# Altium schematic symbol library 13-Standard Logic 逻辑电路.SchLib: 227 symbols (part 1 of 2)
Pins are listed as number, name and electrical type; pins without a type are passive.

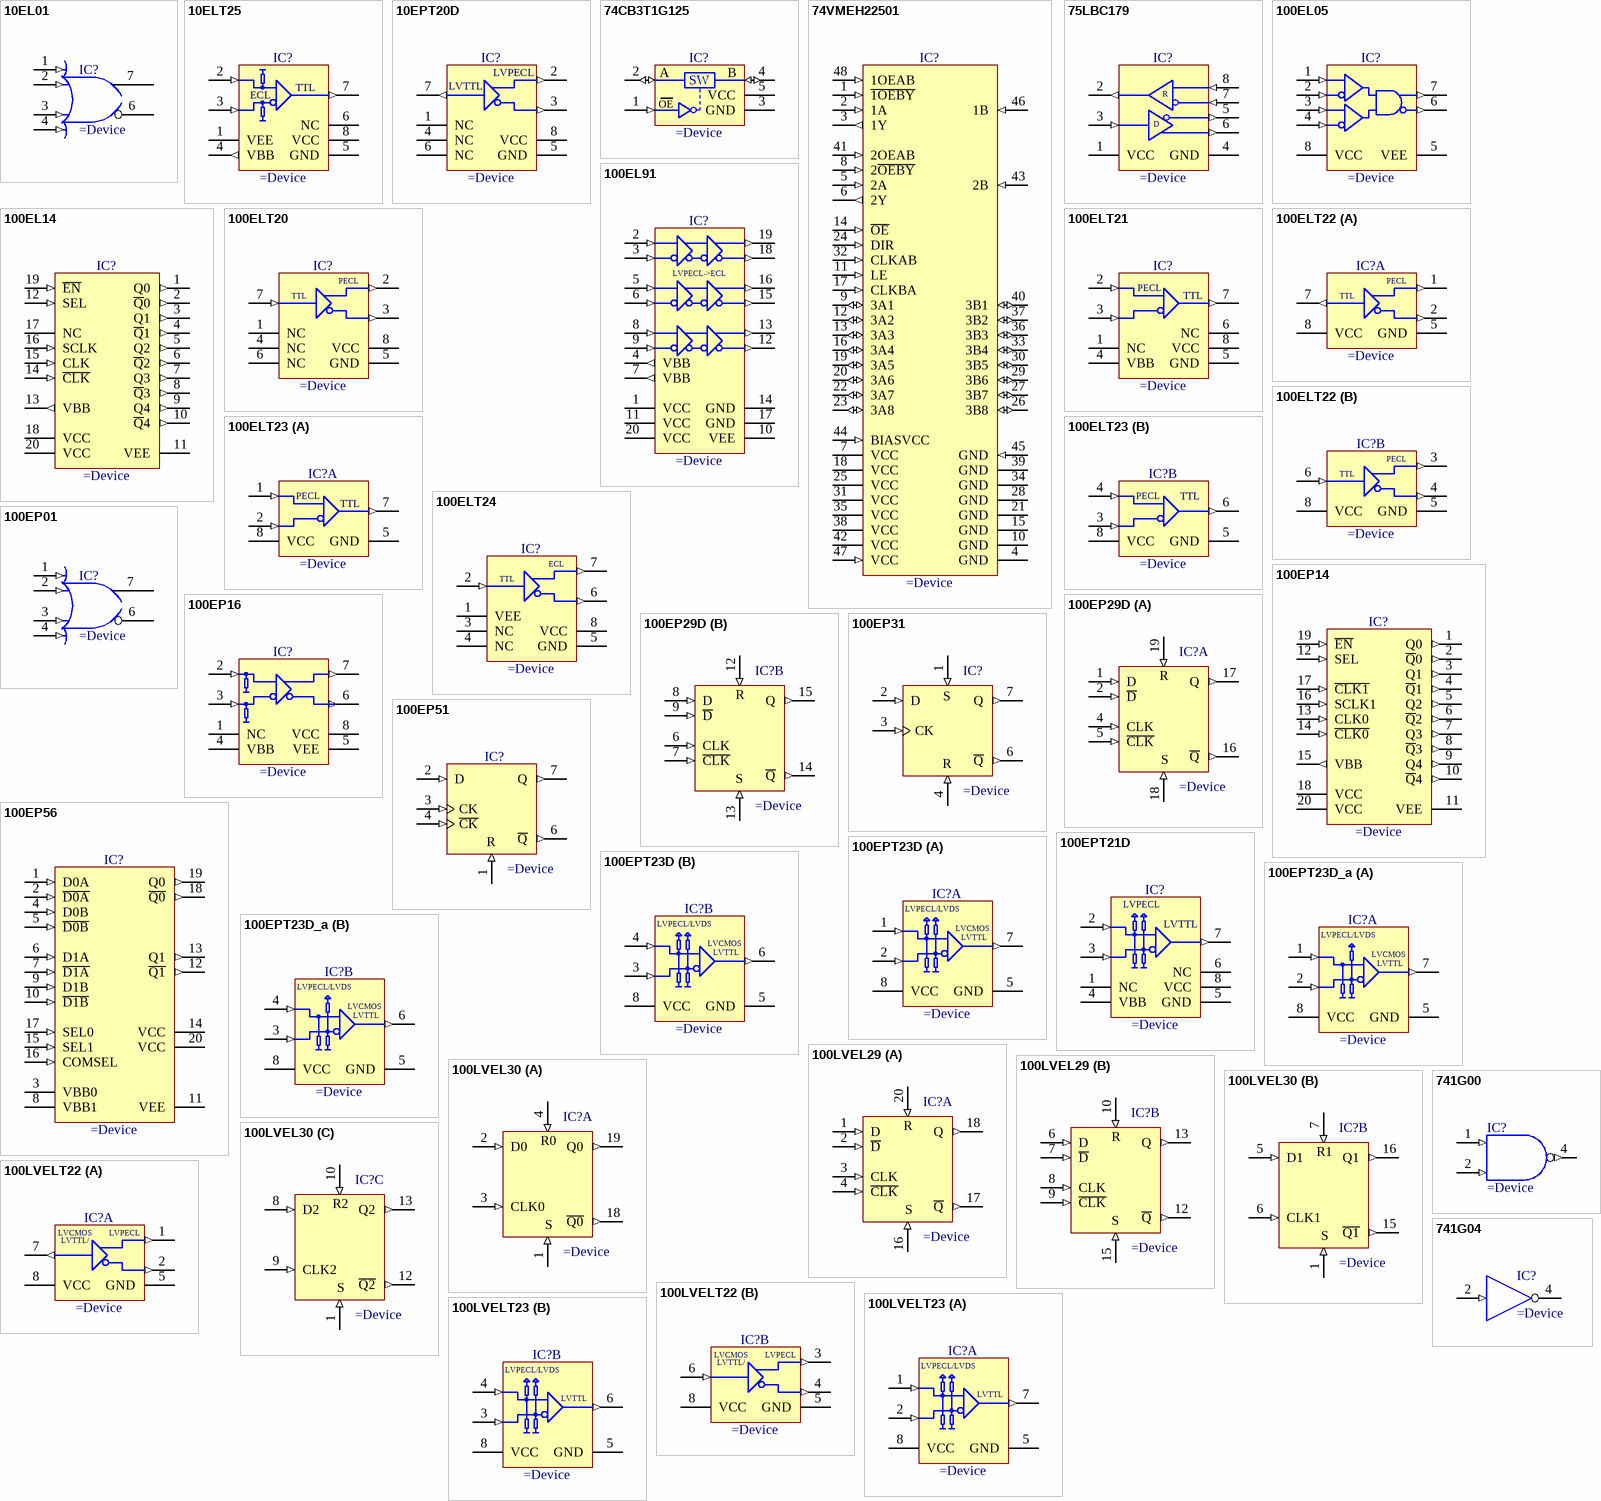
[diagram p0: symbols 10EL01 to 741G04]

## 10EL01
designator IC?
4-Input OR/NOR Gate
pins: 1 D0 (in), 2 D1 (in), 3 D2 (in), 4 D3 (in), 5 VEE (power) hidden to VEE, 6 ~{Q} (oe), 7 Q (oe), 8 VCC (power) hidden to VCC

## 10ELT25
designator IC?
Differential ECL to TTL Translator
pins: 1 VEE (power), 2 D0 (in), 3 ~{D}0 (in), 4 VBB (out), 5 GND (power), 6 NC, 7 Q0 (out), 8 VCC (power)
text: TTL; ECL

## 10EPT20D
designator IC?
3.3V LVTTL/LVCMOS to Differential LVPECL Translator
pins: 1 NC, 2 Q (out), 3 ~{Q} (out), 4 NC, 5 GND (power), 6 NC, 7 D (out), 8 VCC (power)
text: LVPECL; LVTTL

## 74CB3T1G125
designator IC?
Single FET Bus Switch With 2.5V/3.3V Low-Voltage Switch with 5V-Tolerant Level Shifter
pins: 1 ~{OE} (in), 2 A (io), 3 GND (power), 4 B (io), 5 VCC (power)
text: SW; OE

## 74VMEH22501
designator IC?
8-Bit Universal Bus Transceiver and Two 1-Bit Bus Transceivers with 3-State Outputs
pins: 1 ~{1OEBY} (in), 2 1A (in), 3 1Y (out), 4 GND (power), 5 2A (in), 6 2Y (out), 7 VCC (power), 8 2~{OEBY} (in), 9 3A1 (io), 10 GND (power), 11 LE (in), 12 3A2 (io), 13 3A3 (io), 14 ~{OE} (in), 15 GND (power), 16 3A4 (io), 17 CLKBA (in), 18 VCC (power), 19 3A5 (io), 20 3A6 (io), 21 GND (power), 22 3A7 (io), 23 3A8 (io), 24 DIR (in), 25 VCC (power), 26 3B8 (io), 27 3B7 (io), 28 GND (power), 29 3B6 (io), 30 3B5 (io), 31 VCC (power), 32 CLKAB (in), 33 3B4 (io), 34 GND (power), 35 VCC (power), 36 3B3 (io), 37 3B2 (io), 38 VCC (power), 39 GND (power), 40 3B1 (io), 41 2OEAB (in), 42 VCC (power), 43 2B (in), 44 BIASVCC (in), 45 GND (in), 46 1B (in), 47 VCC (in), 48 1OEAB (in)

## 75LBC179
designator IC?
Low-Power Differential Line Driver And Receiver Pairs
pins: 1 VCC (power), 2 R (out), 3 D (in), 4 GND (power), 5 Y (out), 6 Z (out), 7 B (in), 8 A (in)

## 100EL05
designator IC?
ECL 2-Input Differential AND/NAND
pins: 1 D0 (in), 2 ~{D0} (in), 3 D1 (in), 4 ~{D1} (in), 5 VEE (power), 6 ~{Q} (out), 7 Q (out), 8 VCC (power)

## 100EL14
designator IC?
ECL 1:5 Clock Distribution Chip
pins: 1 Q0 (out), 2 ~{Q}0 (out), 3 Q1 (out), 4 ~{Q}1 (out), 5 Q2 (out), 6 ~{Q}2 (out), 7 Q3 (out), 8 ~{Q}3 (out), 9 Q4 (out), 10 ~{Q}4 (out), 11 VEE (power), 12 SEL (in), 13 VBB (out), 14 ~{CLK} (in), 15 CLK (in), 16 SCLK (in), 17 NC, 18 VCC (power), 19 ~{EN} (in), 20 VCC (power)

## 100EL91
designator IC?
3.3V Triple LVPECL Input to -3.3V to -5.0V ECL Output Translator
pins: 1 VCC (power), 2 D0 (in), 3 ~{D0} (in), 4 VBB (out), 5 D1 (in), 6 ~{D1} (in), 7 VBB (out), 8 D2 (in), 9 ~{D2} (in), 10 VEE (power), 11 VCC (power), 12 ~{Q2} (out), 13 Q2 (out), 14 GND (power), 15 ~{Q1} (out), 16 Q1 (out), 17 GND (power), 18 ~{Q0} (out), 19 Q0 (out), 20 VCC (power)
text: LVPECL->ECL

## 100ELT20
designator IC?
TTL to Differential PECL Translator
pins: 1 NC, 2 Q (out), 3 ~{Q} (out), 4 NC, 5 GND (power), 6 NC, 7 D (in), 8 VCC (power)
text: PECL; TTL

## 100ELT21
designator IC?
Differential PECL to TTL Translator
pins: 1 NC, 2 D0 (in), 3 ~{D0} (in), 4 VBB (power), 5 GND (power), 6 NC, 7 Q0 (out), 8 VCC (power)
text: PECL; TTL

## 100ELT22
designator IC?
Dual TTL to Differential PECL Translator
pins on every part: 5 GND (power), 8 VCC (power)
part A pins: 1 Q0 (out), 2 ~{Q0} (out), 7 D0 (out)
part B pins: 3 Q1 (out), 4 ~{Q1} (out), 6 D1 (in)
part A text: PECL; TTL
part B text: PECL; TTL

## 100ELT23
designator IC?
Dual Differential PECL to TTL Translator
pins on every part: 5 GND (power), 8 VCC (power)
part A pins: 1 D0 (in), 2 ~{D0} (in), 7 Q0 (out)
part B pins: 3 ~{D0} (in), 4 D0 (in), 6 Q0 (out)
part A text: PECL; TTL
part B text: PECL; TTL

## 100ELT24
designator IC?
5V TTL to Differential ECL Translator
pins: 1 VEE (power), 2 D (in), 3 NC, 4 NC, 5 GND (power), 6 ~{Q} (out), 7 Q (out), 8 VCC (power)
text: ECL; TTL

## 100EP01
designator IC?
3.3V/5V ECL 4-Input OR/NOR
pins: 1 D0 (in), 2 D1 (in), 3 D2 (in), 4 D3 (in), 5 VEE (power) hidden to VEE, 6 ~{Q} (oe), 7 Q (oe), 8 VCC (power) hidden to VCC

## 100EP14
designator IC?
1:5 Clock Distribution Chip
pins: 1 Q0 (out), 2 ~{Q}0 (out), 3 Q1 (out), 4 ~{Q}1 (out), 5 Q2 (out), 6 ~{Q}2 (out), 7 Q3 (out), 8 ~{Q}3 (out), 9 Q4 (out), 10 ~{Q}4 (out), 11 VEE (power), 12 SEL (in), 13 CLK0 (in), 14 ~{CLK0} (in), 15 VBB (out), 16 SCLK1 (in), 17 ~{CLK1} (in), 18 VCC (power), 19 ~{EN} (in), 20 VCC (power)

## 100EP16
designator IC?
3.3V / 5V ECL Differential Receiver/Driver with High Gain
pins: 1 NC, 2 D0 (in), 3 ~{D0} (in), 4 VBB (power), 5 VEE (power), 6 ~{Q} (out), 7 Q (out), 8 VCC (power)

## 100EP29D
designator IC?
3.3V/5V ECL Dual Differential Data and Clock D Flip-Flop With Set and Reset
pins on every part: 3 VBB (power) hidden to VBB, 10 VCC (power) hidden to VCC, 11 VEE (power) hidden to VEE, 20 VCC (power) hidden to VCC
part A pins: 1 D (in), 2 ~{D} (in), 4 CLK (in), 5 ~{CLK} (in), 16 ~{Q} (out), 17 Q (out), 18 S (in), 19 R (in)
part B pins: 6 CLK (in), 7 ~{CLK} (in), 8 D (in), 9 ~{D} (in), 12 R (in), 13 S (in), 14 ~{Q} (out), 15 Q (out)

## 100EP31
designator IC?
3.3V/5V ECL D Flip-Flop with Set and Reset
pins: 1 SET (in), 2 D (in), 3 CK (in), 4 R (in), 5 VEE (power) hidden, 6 ~{Q} (out), 7 Q (out), 8 VCC (power) hidden
text: S

## 100EP51
designator IC?
3.3V/5V ECL D Flip-Flop with Reset and Differential Clock
pins: 1 R (in), 2 D (in), 3 CK (in), 4 ~{CK} (in), 5 VEE (power) hidden, 6 ~{Q} (out), 7 Q (out), 8 VCC (power) hidden

## 100EP56
designator IC?
Dual Differential 2:1 Multiplexer
pins: 1 D0A (in), 2 ~{D0A} (in), 3 VBB0 (power), 4 D0B (in), 5 ~{D0B} (in), 6 D1A (in), 7 ~{D1A} (in), 8 VBB1 (power), 9 D1B (in), 10 ~{D1B} (in), 11 VEE (power), 12 ~{Q1} (out), 13 Q1 (out), 14 VCC (power), 15 SEL1 (in), 16 COMSEL (in), 17 SEL0 (in), 18 ~{Q0} (out), 19 Q0 (out), 20 VCC (power)

## 100EPT21D
designator IC?
3.3V Differential LVPECL/LVDS/CML  to LVTTL/LVCMOS Translator
pins: 1 NC, 2 D0 (in), 3 ~{D0} (in), 4 VBB (power), 5 GND (power), 6 NC, 7 Q0 (out), 8 VCC (power)
text: LVPECL; LVTTL

## 100EPT23D
designator IC?
3.3V Dual Differential LVPECL/LVDS/CML  to LVTTL/LVCMOS Translator
pins on every part: 5 GND (power), 8 VCC (power)
part A pins: 1 D0 (in), 2 ~{D0} (in), 7 Q0 (out)
part B pins: 3 ~{D0} (in), 4 D0 (in), 6 Q0 (out)
part A text: LVPECL/LVDS; LVCMOS; LVTTL
part B text: LVPECL/LVDS; LVCMOS; LVTTL

## 100EPT23D_a
designator IC?
3.3V Dual Differential LVPECL/LVDS/CML  to LVTTL/LVCMOS Translator
pins on every part: 5 GND (power), 8 VCC (power)
part A pins: 1 D0 (in), 2 ~{D0} (in), 7 Q0 (out)
part B pins: 3 ~{D0} (in), 4 D0 (in), 6 Q0 (out)
part A text: LVPECL/LVDS; LVCMOS; LVTTL
part B text: LVPECL/LVDS; LVCMOS; LVTTL

## 100LVEL29
designator IC?
3.3V ECL Dual Differential Data and Clock D Flip-Flop With Set and Reset
pins on every part: 5 VBB (power) hidden to VBB, 11 VEE (power) hidden to VEE, 14 VCC (power) hidden to VCC, 19 VCC (power) hidden to VCC
part A pins: 1 D (in), 2 ~{D} (in), 3 CLK (in), 4 ~{CLK} (in), 16 S (in), 17 ~{Q} (out), 18 Q (out), 20 R (in)
part B pins: 6 D (in), 7 ~{D} (in), 8 CLK (in), 9 ~{CLK} (in), 10 R (in), 12 ~{Q} (out), 13 Q (out), 15 S (in)

## 100LVEL30
designator IC?
3.3V ECL Triple D Flip-Flop with Set and Reset
pins on every part: 1 S012 (in), 11 VEE (power) hidden to VEE, 14 VCC (power) hidden to VCC, 17 VCC (power) hidden to VCC, 20 VCC (power) hidden to VCC
part A pins: 2 D0 (in), 3 CLK0 (in), 4 R0 (in), 18 ~{Q0} (out), 19 Q0 (out)
part B pins: 5 D1 (in), 6 CLK1 (in), 7 R1 (in), 15 ~{Q1} (out), 16 Q1 (out)
part C pins: 8 D2 (in), 9 CLK2 (in), 10 R2 (in), 12 ~{Q2} (out), 13 Q2 (out)
part A text: S
part B text: S
part C text: S

## 100LVELT22
designator IC?
3.3V Dual LVTTL/LVCMOS to Differential LVPECL Translator
pins on every part: 5 GND (power), 8 VCC (power)
part A pins: 1 Q0 (out), 2 ~{Q0} (out), 7 D0 (out)
part B pins: 3 Q1 (out), 4 ~{Q1} (out), 6 D1 (in)
part A text: LVCMOS; LVPECL; LVTTL/
part B text: LVCMOS; LVPECL; LVTTL/

## 100LVELT23
designator IC?
3.3V Dual Differential LVPECL/LVDS to LVTTL Translator
pins on every part: 5 GND (power), 8 VCC (power)
part A pins: 1 D0 (in), 2 ~{D0} (in), 7 Q0 (out)
part B pins: 3 ~{D0} (in), 4 D0 (in), 6 Q0 (out)
part A text: LVPECL/LVDS; LVTTL
part B text: LVPECL/LVDS; LVTTL

## 741G00
designator IC?
Single 2-Input NAND Gate
pins: 1 A (in), 2 B (in), 3 GND (power) hidden to GND, 4 Y (out), 5 VCC (power) hidden to VCC

## 741G04
designator IC?
Single Inverter Buffer
pins: 2 IN (in), 3 GND (power) hidden to GND, 4 OUT (oc), 5 VCC (power) hidden to VDD

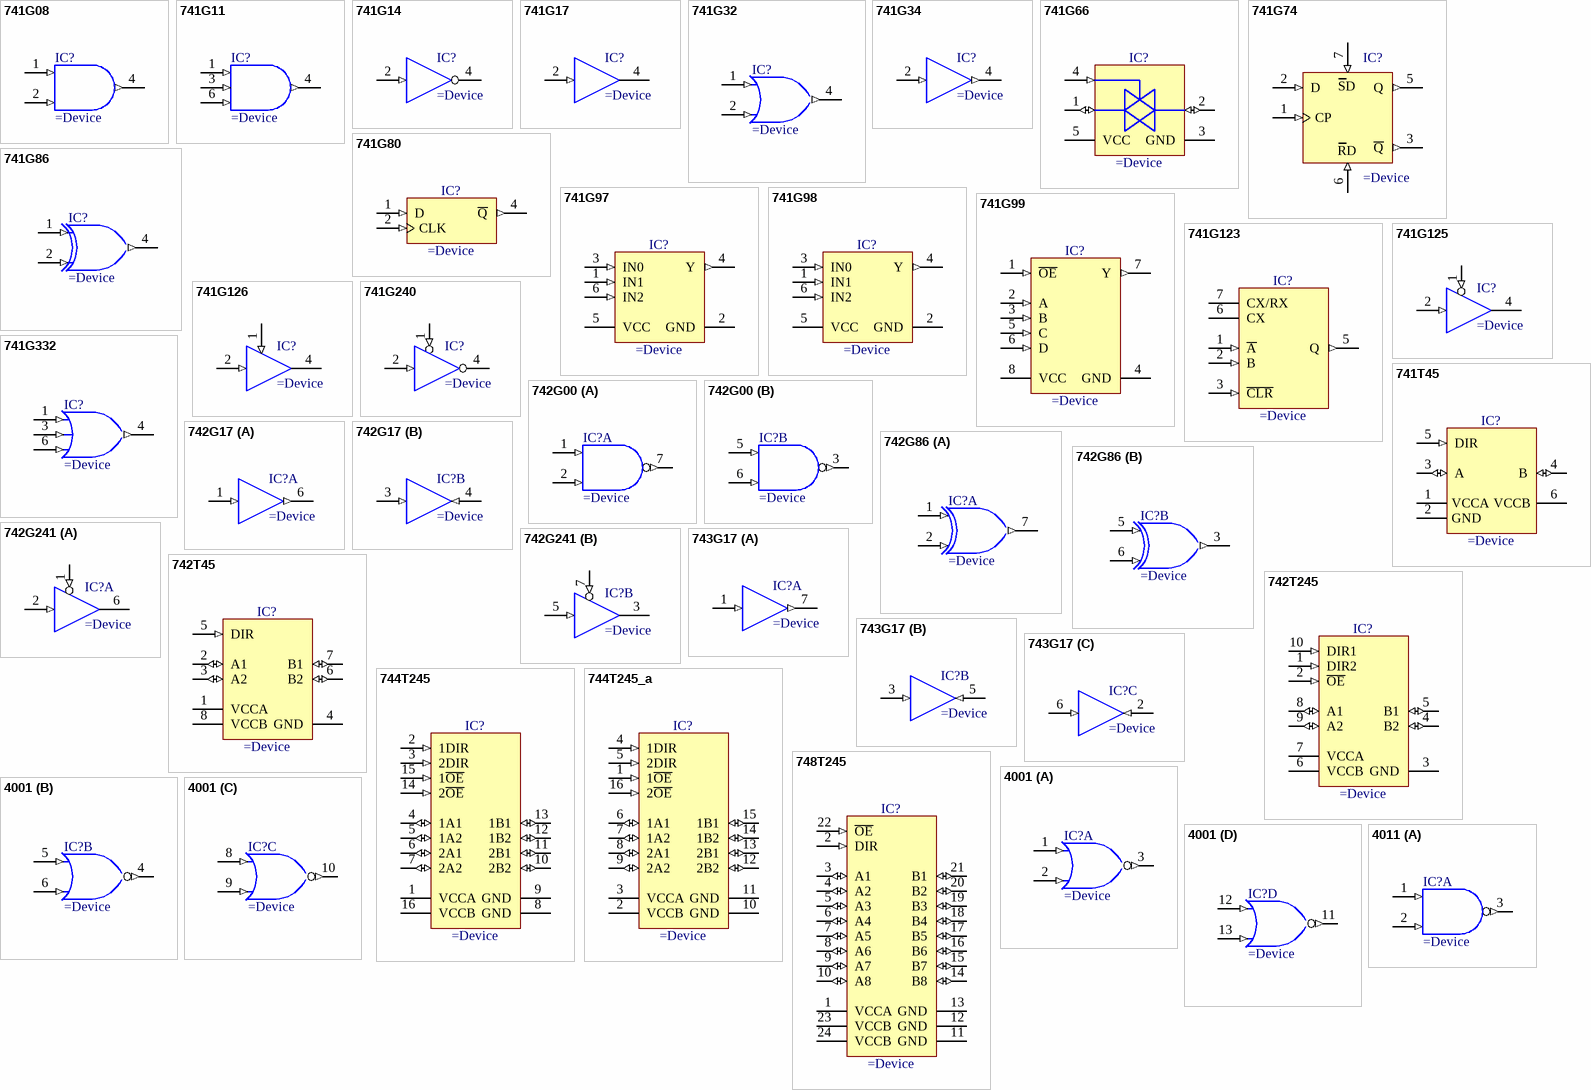
[diagram p1: symbols 741G08 to 4011]

## 741G08
designator IC?
Single 2-Input AND Gate
pins: 1 B (in), 2 A (in), 3 GND (power) hidden to GND, 4 Y (out), 5 VCC (power) hidden to VCC

## 741G11
designator IC?
Single 3-Input Positive-AND Gate
pins: 1 A (in), 2 GND (power) hidden to GND, 3 B (in), 4 Y (out), 5 VCC (power) hidden to VCC, 6 C (in)

## 741G14
designator IC?
Single Schmitt-Trigger Inverter
pins: 2 IN (in), 3 GND (power) hidden to GND, 4 OUT (oc), 5 VCC (power) hidden to VDD

## 741G17
designator IC?
Single Schmitt-Trigger Buffer
pins: 2 IN (in), 3 GND (power) hidden to GND, 4 OUT (oc), 5 VCC (power) hidden to VDD

## 741G32
designator IC?
Single 2-Input Positive-OR Gate
pins: 1 A (in), 2 B (in), 3 GND (power) hidden to GND, 4 Y (out), 5 VCC (power) hidden to VCC

## 741G34
designator IC?
Single Buffer Gate
pins: 2 IN (in), 3 GND (power) hidden to GND, 4 OUT (out), 5 VCC (power) hidden to VDD

## 741G66
designator IC?
Single Bilateral Switch
pins: 1 D0 (io), 2 ~{D0} (io), 3 GND (power), 4 ~{D1} (in), 5 VCC (power)

## 741G74
designator IC?
Single D-type flip-flop with set and reset, positive edge trigger
pins: 1 CP (in), 2 D (in), 3 ~{Q} (out), 4 GND (power) hidden, 5 Q (out), 6 ~{RD} (in), 7 ~{S}D (in), 8 VCC (power) hidden
text: SD; RD

## 741G80
designator IC?
Single Positive-Edge-Triggered D-Type Flip-Flop
pins: 1 D (in), 2 CLK (in), 3 GND (power) hidden to GND, 4 ~{Q} (out), 5 VCC (power) hidden to VCC

## 741G86
designator IC?
Single 2-Input Exclusive OR Gate
pins: 1 A (in), 2 B (in), 3 GND (power) hidden to GND, 4 Y (out), 5 VCC (power) hidden to VCC

## 741G97
designator IC?
Configurable Multiple-Function Gate
pins: 1 IN1 (in), 2 GND (power), 3 IN0 (in), 4 Y (out), 5 VCC (power), 6 IN2 (in)

## 741G98
designator IC?
Configurable Multiple-Function Gate
pins: 1 IN1 (in), 2 GND (power), 3 IN0 (in), 4 Y (out), 5 VCC (power), 6 IN2 (in)

## 741G99
designator IC?
Ultra-Configurable Multi-Function Gate With 3-State Outputs
pins: 1 ~{OE} (in), 2 A (in), 3 B (in), 4 GND (power), 5 C (in), 6 D (in), 7 Y (out), 8 VCC (power)

## 741G123
designator IC?
Single Retriggerable Monostable Multivibrator
pins: 1 ~{A} (in), 2 B (in), 3 ~{CLR} (in), 4 GND (power) hidden to GND, 5 Q (out), 6 CX, 7 CX/RX, 8 VCC (power) hidden to VCC

## 741G125
designator IC?
Single Bus Buffer Gate With 3-State Output
pins: 1 ~{G} (in), 2 IN (in), 3 GND (power) hidden to GND, 4 OUT (hiz), 5 VCC (power) hidden to VCC

## 741G126
designator IC?
Noninverting Buffer/CMOS Logic Level Shifter with LSTTL-Compatible Inputs
pins: 1 ~{G} (in), 2 IN (in), 3 GND (power) hidden to GND, 4 OUT (hiz), 5 VCC (power) hidden to VCC

## 741G240
designator IC?
pins: 1 O~{E} (in), 2 A (in), 3 GND (power) hidden to GND, 4 Y (hiz), 5 VCC (power) hidden to VCC

## 741G332
designator IC?
Single 3-Input Positive-OR Gate
pins: 1 A (in), 2 GND (power) hidden to GND, 3 B (in), 4 Y (out), 5 VCC (power) hidden to VCC, 6 C (in)

## 741T45
designator IC?
Single-Bit Dual-Supply Bus Transceiver
pins: 1 VCCA (power), 2 GND (power), 3 A (io), 4 B (io), 5 DIR (in), 6 VCCB (power)

## 742G00
designator IC?
Dual 2-Input Positive NAND Gate
pins on every part: 4 GND (power) hidden to GND, 8 VCC (power) hidden to VCC
part A pins: 1 A (in), 2 B (in), 7 Y (out)
part B pins: 3 Y (out), 5 A (in), 6 B (in)

## 742G17
designator IC?
Dual Schmitt-Trigger Buffer
pins on every part: 2 GND (power) hidden to GND, 5 VCC (power) hidden to VDD
part A pins: 1 IN (in), 6 OUT (out)
part B pins: 3 IN (in), 4 OUT (in)

## 742G86
designator IC?
Dual 2-Input Exclusive-OR Gate
pins on every part: 4 GND (power) hidden to GND, 8 VCC (power) hidden to VCC
part A pins: 1 A (in), 2 B (in), 7 Y (out)
part B pins: 3 Y (out), 5 A (in), 6 B (in)

## 742G241
designator IC?
Dual Buffer/Driver With 3-State Outputs
pins on every part: 4 GND (power) hidden to GND, 8 VCC (power) hidden to VCC
part A pins: 1 ~{OE} (in), 2 A (in), 6 Y (hiz)
part B pins: 3 Y (hiz), 5 A (in), 7 O/E (in)

## 742T45
designator IC?
Dual-Bit Dual-Supply Bus Transceiver With Configurable Voltage Translation and 3-State Outputs
pins: 1 VCCA (power), 2 A1 (io), 3 A2 (io), 4 GND (power), 5 DIR (in), 6 B2 (io), 7 B1 (io), 8 VCCB (power)

## 742T245
designator IC?
Dual-Bit Dual-Supply Bus Transceiver With Configurable Voltage Translation and 3-State Outputs
pins: 1 DIR2 (in), 2 ~{OE} (in), 3 GND (power), 4 B2 (io), 5 B1 (io), 6 VCCB (power), 7 VCCA (power), 8 A1 (io), 9 A2 (io), 10 DIR1 (in)

## 743G17
designator IC?
Triple Schmitt-Trigger Buffer
pins on every part: 4 GND (power) hidden to GND, 8 VCC (power) hidden to VDD
part A pins: 1 IN (in), 7 OUT (out)
part B pins: 3 IN (in), 5 OUT (in)
part C pins: 2 OUT (in), 6 IN (in)

## 744T245
designator IC?
4-Bit Dual-Supply Bus Transceiver with Configurable Voltage Translation and 3-State Output
pins: 1 VCCA (power), 2 1DIR (in), 3 2DIR (in), 4 1A1 (io), 5 1A2 (io), 6 2A1 (io), 7 2A2 (io), 8 GND (power), 9 GND (power), 10 2B2 (io), 11 2B1 (io), 12 1B2 (io), 13 1B1 (io), 14 2~{OE} (in), 15 1~{OE} (in), 16 VCCB (power)

## 744T245_a
designator IC?
4-Bit Dual-Supply Bus Transceiver with Configurable Voltage Translation and 3-State Output
pins: 1 1~{OE} (in), 2 VCCB (power), 3 VCCA (power), 4 1DIR (in), 5 2DIR (in), 6 1A1 (io), 7 1A2 (io), 8 2A1 (io), 9 2A2 (io), 10 GND (power), 11 GND (power), 12 2B2 (io), 13 2B1 (io), 14 1B2 (io), 15 1B1 (io), 16 2~{OE} (in)

## 748T245
designator IC?
8-Bit Dual-Supply Bus Transceiver With Configurable Voltage Translation and 3-State Outputs
pins: 1 VCCA (power), 2 DIR (in), 3 A1 (io), 4 A2 (io), 5 A3 (io), 6 A4 (io), 7 A5 (io), 8 A6 (io), 9 A7 (io), 10 A8 (io), 11 GND (power), 12 GND (power), 13 GND (power), 14 B8 (io), 15 B7 (io), 16 B6 (io), 17 B5 (io), 18 B4 (io), 19 B3 (io), 20 B2 (io), 21 B1 (io), 22 ~{OE} (in), 23 VCCB (power), 24 VCCB (power)

## 4001
designator IC?
Quad 2-Input NOR Gate
pins on every part: 7 VSS (power) hidden to GND, 14 VDD (power) hidden to VDD
part A pins: 1 IN1 (in), 2 IN2 (in), 3 OU~{T} (out)
part B pins: 4 OU~{T} (out), 5 IN1 (in), 6 IN2 (in)
part C pins: 8 IN1 (in), 9 IN2 (in), 10 OU~{T} (out)
part D pins: 11 OU~{T} (out), 12 IN1 (in), 13 IN2 (in)

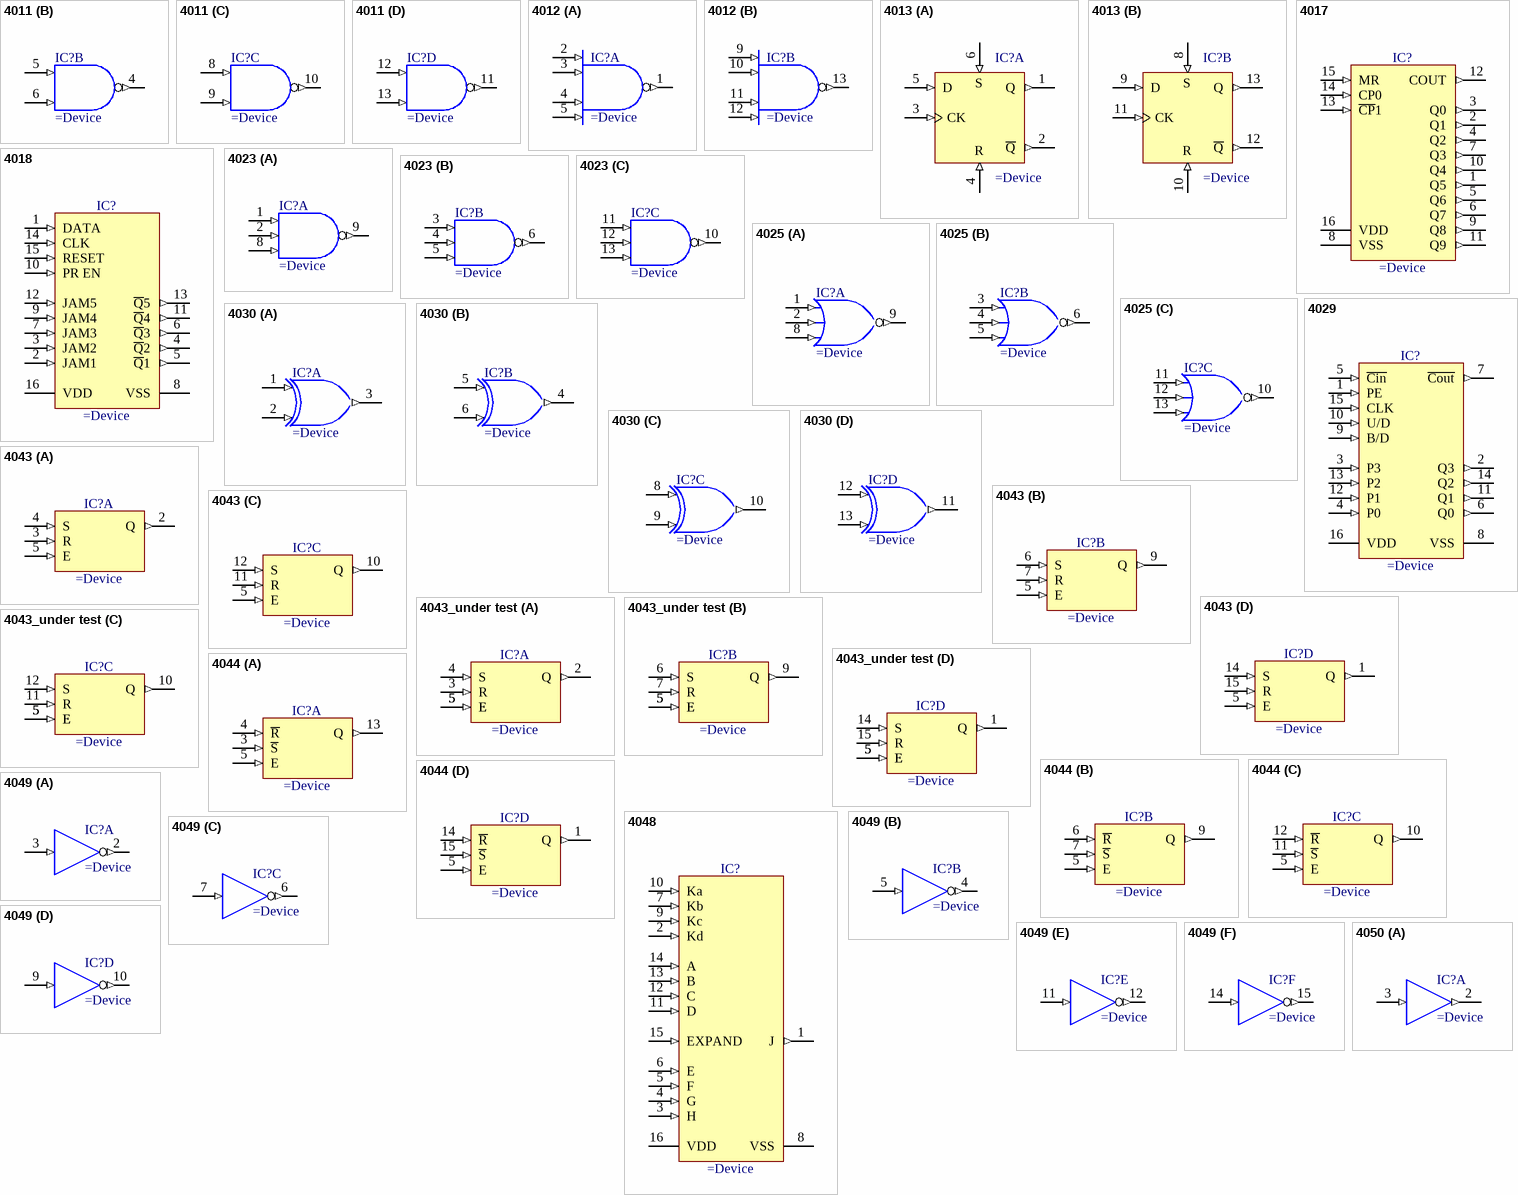
[diagram p2: symbols 4011 to 4050]

## 4011
designator IC?
Quad 2-Input NAND Gate
pins on every part: 7 VSS (power) hidden to GND, 14 VDD (power) hidden to VDD
part A pins: 1 IN1 (in), 2 IN2 (in), 3 OU~{T} (out)
part B pins: 4 OU~{T} (out), 5 IN1 (in), 6 IN2 (in)
part C pins: 8 IN1 (in), 9 IN2 (in), 10 OU~{T} (out)
part D pins: 11 OU~{T} (out), 12 IN1 (in), 13 IN2 (in)

## 4012
designator IC?
Dual 4-Input NAND Gates
pins on every part: 7 GND (power) hidden to GND, 14 VCC (power) hidden to VCC
part A pins: 1 Y (out), 2 A (in), 3 B (in), 4 C (in), 5 D (in)
part B pins: 9 A (in), 10 B (in), 11 C (in), 12 D (in), 13 Y (out)

## 4013
designator IC?
Dual Type D Flip-Flop
pins on every part: 7 VSS (power) hidden to GND, 14 VDD (power) hidden to VDD
part A pins: 1 Q (out), 2 ~{Q} (out), 3 CK (in), 4 R (in), 5 D (in), 6 S (in)
part B pins: 8 S (in), 9 D (in), 10 R (in), 11 CK (in), 12 ~{Q} (out), 13 Q (out)

## 4017
designator IC?
5-Stage Johnson Decade Counter
pins: 1 Q5 (out), 2 Q1 (out), 3 Q0 (out), 4 Q2 (out), 5 Q6 (out), 6 Q7 (out), 7 Q3 (out), 8 VSS (power), 9 Q8 (out), 10 Q4 (out), 11 Q9 (out), 12 COUT (out), 13 ~{CP}1 (in), 14 CP0 (in), 15 MR (in), 16 VDD (power)

## 4018
designator IC?
CMOS Presettable Divide-By-'N' Counter
pins: 1 DATA (in), 2 JAM1 (in), 3 JAM2 (in), 4 ~{Q}2 (out), 5 ~{Q}1 (out), 6 ~{Q}3 (out), 7 JAM3 (in), 8 VSS (power), 9 JAM4 (in), 10 PR EN (in), 11 ~{Q}4 (out), 12 JAM5 (in), 13 ~{Q}5 (out), 14 CLK (in), 15 RESET (in), 16 VDD (power)

## 4023
designator IC?
Triple 3-Input NAND Gate
pins on every part: 7 VSS (power) hidden to GND, 14 VDD (power) hidden to VDD
part A pins: 1 IN1 (in), 2 IN2 (in), 8 IN3 (in), 9 OU~{T} (out)
part B pins: 3 IN1 (in), 4 IN2 (in), 5 IN3 (in), 6 OU~{T} (out)
part C pins: 10 OU~{T} (out), 11 IN1 (in), 12 IN2 (in), 13 IN3 (in)

## 4025
designator IC?
Triple 3-Input NOR Gate
pins on every part: 7 VSS (power) hidden to GND, 14 VDD (power) hidden to VDD
part A pins: 1 IN1 (in), 2 IN2 (in), 8 IN3 (in), 9 OU~{T} (out)
part B pins: 3 IN1 (in), 4 IN2 (in), 5 IN3 (in), 6 OU~{T} (out)
part C pins: 10 OU~{T} (out), 11 IN1 (in), 12 IN2 (in), 13 IN3 (in)

## 4029
designator IC?
Binary/Decade Up/Down Counter
pins: 1 PE (in), 2 Q3 (out), 3 P3 (in), 4 P0 (in), 5 ~{Cin} (in), 6 Q0 (out), 7 ~{Cout} (out), 8 VSS (power), 9 B/D (in), 10 U/D (in), 11 Q1 (out), 12 P1 (in), 13 P2 (in), 14 Q2 (out), 15 CLK (in), 16 VDD (power)

## 4030
designator IC?
Quadruple Exclusive-OR Gate
pins on every part: 7 VSS (power) hidden to GND, 14 VDD (power) hidden to VDD
part A pins: 1 IN1 (in), 2 IN2 (in), 3 OUT (out)
part B pins: 4 OUT (out), 5 IN1 (in), 6 IN2 (in)
part C pins: 8 IN1 (in), 9 IN2 (in), 10 OUT (out)
part D pins: 11 OUT (out), 12 IN1 (in), 13 IN2 (in)

## 4043
designator IC?
Quad R-S Latches
pins on every part: 8 VSS (power) hidden to GND, 16 VDD (power) hidden to VDD
part A pins: 2 Q (out), 3 R (in), 4 S (in), 5 E (in)
part B pins: 5 E (in), 6 S (in), 7 R (in), 9 Q (out)
part C pins: 5 E (in), 10 Q (out), 11 R (in), 12 S (in)
part D pins: 1 Q (out), 5 E (in), 14 S (in), 15 R (in)

## 4043_under test
designator IC?
Quad R-S Latches
pins on every part: 5 E (in), 5 E (in), 5 E (in), 5 E (in), 8 VSS (power) hidden to GND, 16 VDD (power) hidden to VDD
part A pins: 2 Q (out), 3 R (in), 4 S (in)
part B pins: 6 S (in), 7 R (in), 9 Q (out)
part C pins: 10 Q (out), 11 R (in), 12 S (in)
part D pins: 1 Q (out), 14 S (in), 15 R (in)

## 4044
designator IC?
Quad R-S Latches
pins on every part: 8 VSS (power) hidden to GND, 16 VDD (power) hidden to VDD
part A pins: 3 ~{S} (in), 4 ~{R} (in), 5 E (in), 13 Q (out)
part B pins: 5 E (in), 6 ~{R} (in), 7 ~{S} (in), 9 Q (out)
part C pins: 5 E (in), 10 Q (out), 11 ~{S} (in), 12 ~{R} (in)
part D pins: 1 Q (out), 5 E (in), 14 ~{R} (in), 15 ~{S} (in)

## 4048
designator IC?
CMOS Multifunction Expandable 8-Input Gate
pins: 1 J (out), 2 Kd (in), 3 H (in), 4 G (in), 5 F (in), 6 E (in), 7 Kb (in), 8 VSS (power), 9 Kc (in), 10 Ka (in), 11 D (in), 12 C (in), 13 B (in), 14 A (in), 15 EXPAND (in), 16 VDD (power)

## 4049
designator IC?
Hex Inverter/Buffer
pins on every part: 1 VDD (power) hidden to VDD, 8 VSS (power) hidden to GND
part A pins: 2 OUT (out), 3 IN (in)
part B pins: 4 OUT (out), 5 IN (in)
part C pins: 6 OUT (out), 7 IN (in)
part D pins: 9 IN (in), 10 OUT (out)
part E pins: 11 IN (in), 12 OUT (out)
part F pins: 14 IN (in), 15 OUT (out)

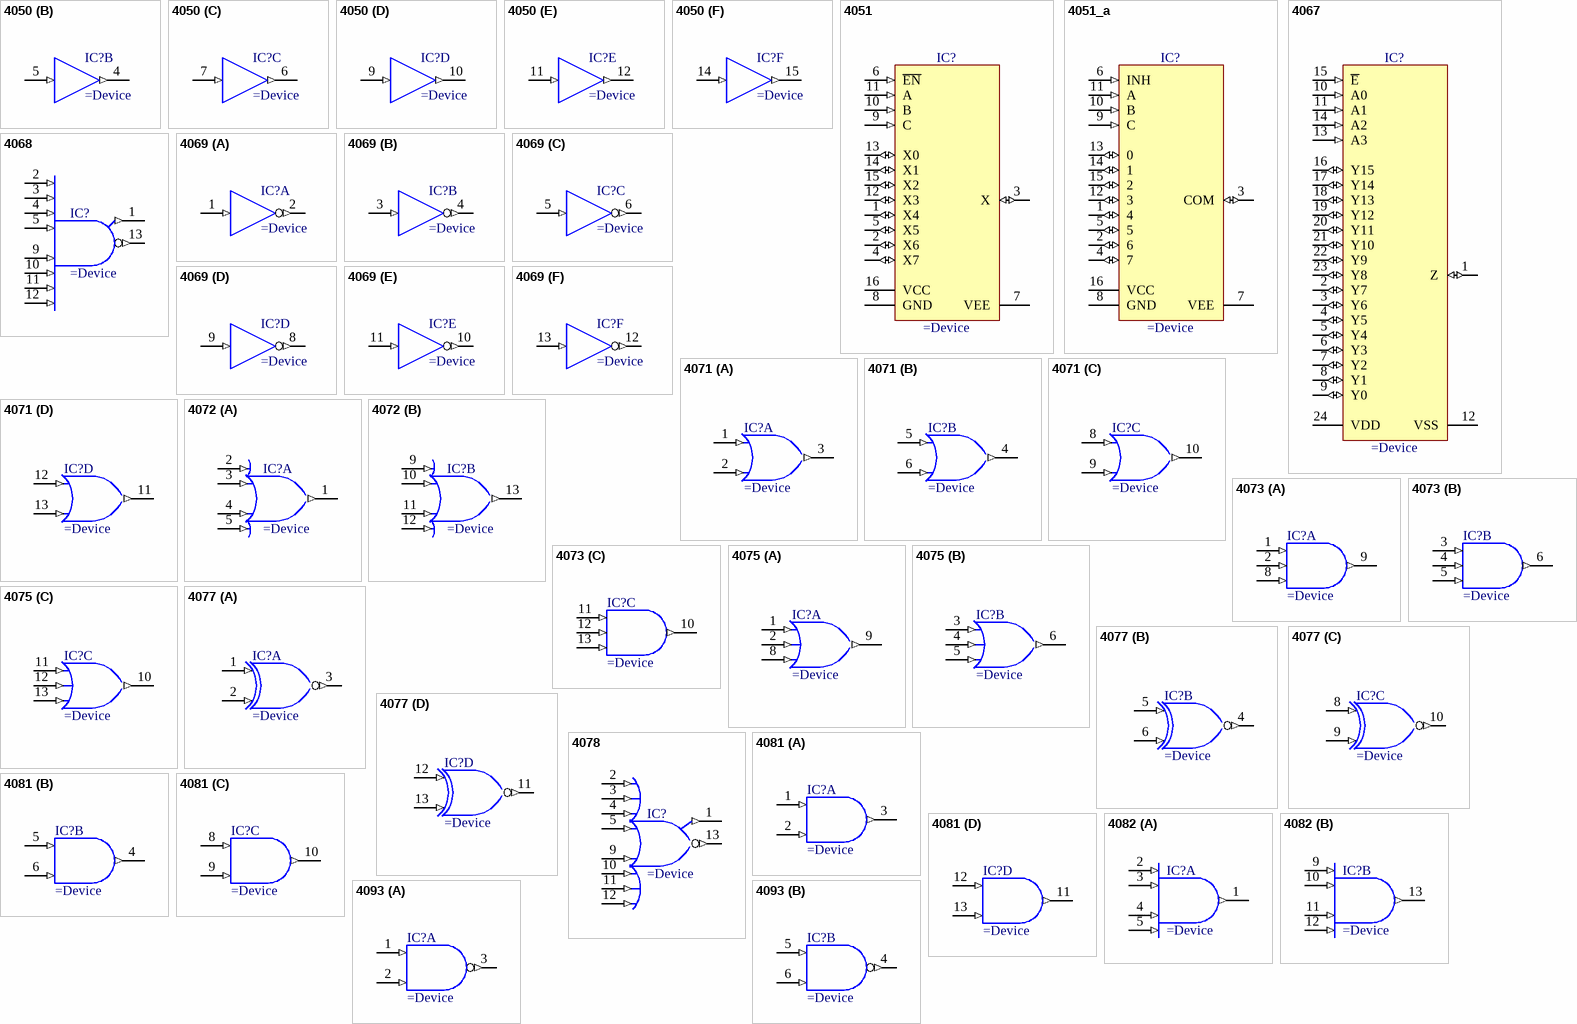
[diagram p3: symbols 4050 to 4093]

## 4050
designator IC?
Hex Non-Inverting Buffers
pins on every part: 1 VDD (power) hidden to VDD, 8 VSS (power) hidden to GND
part A pins: 2 OUT (out), 3 IN (in)
part B pins: 4 OUT (out), 5 IN (in)
part C pins: 6 OUT (out), 7 IN (in)
part D pins: 9 IN (in), 10 OUT (out)
part E pins: 11 IN (in), 12 OUT (out)
part F pins: 14 IN (in), 15 OUT (out)

## 4051
designator IC?
8-Channel Analog Multiplexer/Demultiplexer
pins: 1 X4 (io), 2 X6 (io), 3 X (io), 4 X7 (io), 5 X5 (io), 6 ~{EN} (in), 7 VEE (power), 8 GND (power), 9 C (in), 10 B (in), 11 A (in), 12 X3 (io), 13 X0 (io), 14 X1 (io), 15 X2 (io), 16 VCC (power)

## 4051_a
designator IC?
8-Channel Analog Multiplexer/Demultiplexer
pins: 1 4 (io), 2 6 (io), 3 COM (io), 4 7 (io), 5 (io), 6 INH (in), 7 VEE (power), 8 GND (power), 9 C (in), 10 B (in), 11 A (in), 12 3 (io), 13 0 (io), 14 1 (io), 15 2 (io), 16 VCC (power)

## 4067
designator IC?
16-Channel Analog Multiplexer/Demultiplexer
pins: 1 Z (io), 2 Y7 (io), 3 Y6 (io), 4 Y5 (io), 5 Y4 (io), 6 Y3 (io), 7 Y2 (io), 8 Y1 (io), 9 Y0 (io), 10 A0 (in), 11 A1 (in), 12 VSS (power), 13 A3 (in), 14 A2 (in), 15 ~{E} (in), 16 Y15 (io), 17 Y14 (io), 18 Y13 (io), 19 Y12 (io), 20 Y11 (io), 21 Y10 (io), 22 Y9 (io), 23 Y8 (io), 24 VDD (power)

## 4068
designator IC?
8-Input NANS/AND Gate
pins: 1 K (out), 2 A (in), 3 B (in), 4 C (in), 5 D (in), 7 VSS (power) hidden to GND, 9 E (in), 10 F (in), 11 G (in), 12 H (in), 13 J (out), 14 VDD (power) hidden to VDD

## 4069
designator IC?
Hex Inverter
pins on every part: 7 VSS (power) hidden to GND, 14 VDD (power) hidden to VDD
part A pins: 1 IN (in), 2 OUT (out)
part B pins: 3 IN (in), 4 OUT (out)
part C pins: 5 IN (in), 6 OUT (out)
part D pins: 8 OUT (out), 9 IN (in)
part E pins: 10 OUT (out), 11 IN (in)
part F pins: 12 OUT (out), 13 IN (in)

## 4071
designator IC?
Quad 2-Input OR Gate
pins on every part: 7 VSS (power) hidden to GND, 14 VDD (power) hidden to VDD
part A pins: 1 IN1 (in), 2 IN2 (in), 3 OUT (out)
part B pins: 4 OUT (out), 5 IN1 (in), 6 IN2 (in)
part C pins: 8 IN1 (in), 9 IN2 (in), 10 OUT (out)
part D pins: 11 OUT (out), 12 IN1 (in), 13 IN2 (in)

## 4072
designator IC?
Dual 4-Input OR Gate
pins on every part: 7 VSS (power) hidden to GND, 14 VDD (power) hidden to VDD
part A pins: 1 J (out), 2 A (in), 3 B (in), 4 C (in), 5 D (in)
part B pins: 9 E (in), 10 F (in), 11 G (in), 12 H (in), 13 K (out)

## 4073
designator IC?
Triple 3-Input AND Gate
pins on every part: 7 VSS (power) hidden to GND, 14 VDD (power) hidden to VDD
part A pins: 1 IN1 (in), 2 IN2 (in), 8 IN3 (in), 9 OUT (out)
part B pins: 3 IN1 (in), 4 IN2 (in), 5 IN3 (in), 6 OUT (out)
part C pins: 10 OUT (out), 11 IN1 (in), 12 IN2 (in), 13 IN3 (in)

## 4075
designator IC?
Triple 3-Input OR Gate
pins on every part: 7 VSS (power) hidden to GND, 14 VDD (power) hidden to VDD
part A pins: 1 IN1 (in), 2 IN2 (in), 8 IN3 (in), 9 OUT (out)
part B pins: 3 IN1 (in), 4 IN2 (in), 5 IN3 (in), 6 OUT (out)
part C pins: 10 OUT (out), 11 IN1 (in), 12 IN2 (in), 13 IN3 (in)

## 4077
designator IC?
Quad 2-Input Exclusive-NOR Gate
pins on every part: 7 VSS (power) hidden to GND, 14 VDD (power) hidden to VDD
part A pins: 1 IN1 (in), 2 IN2 (in), 3 OUT (out)
part B pins: 4 OUT (out), 5 IN1 (in), 6 IN2 (in)
part C pins: 8 IN1 (in), 9 IN2 (in), 10 OUT (out)
part D pins: 11 OUT (out), 12 IN1 (in), 13 IN2 (in)

## 4078
designator IC?
8-Input NOR Gate
pins: 1 K (out), 2 A (in), 3 B (in), 4 C (in), 5 D (in), 7 VSS (power) hidden to GND, 9 E (in), 10 F (in), 11 G (in), 12 H (in), 13 J (out), 14 VDD (power) hidden to VDD

## 4081
designator IC?
Quad 2-Input AND Gate
pins on every part: 7 VSS (power) hidden to GND, 14 VDD (power) hidden to VDD
part A pins: 1 IN1 (in), 2 IN2 (in), 3 OUT (out)
part B pins: 4 OUT (out), 5 IN1 (in), 6 IN2 (in)
part C pins: 8 IN1 (in), 9 IN2 (in), 10 OUT (out)
part D pins: 11 OUT (out), 12 IN1 (in), 13 IN2 (in)

## 4082
designator IC?
Dual 4-Input AND Gate
pins on every part: 7 VSS (power) hidden to GND, 14 VDD (power) hidden to VDD
part A pins: 1 OUT (out), 2 IN1 (in), 3 IN2 (in), 4 IN3 (in), 5 IN4 (in)
part B pins: 9 IN1 (in), 10 IN2 (in), 11 IN3 (in), 12 IN4 (in), 13 OUT (out)

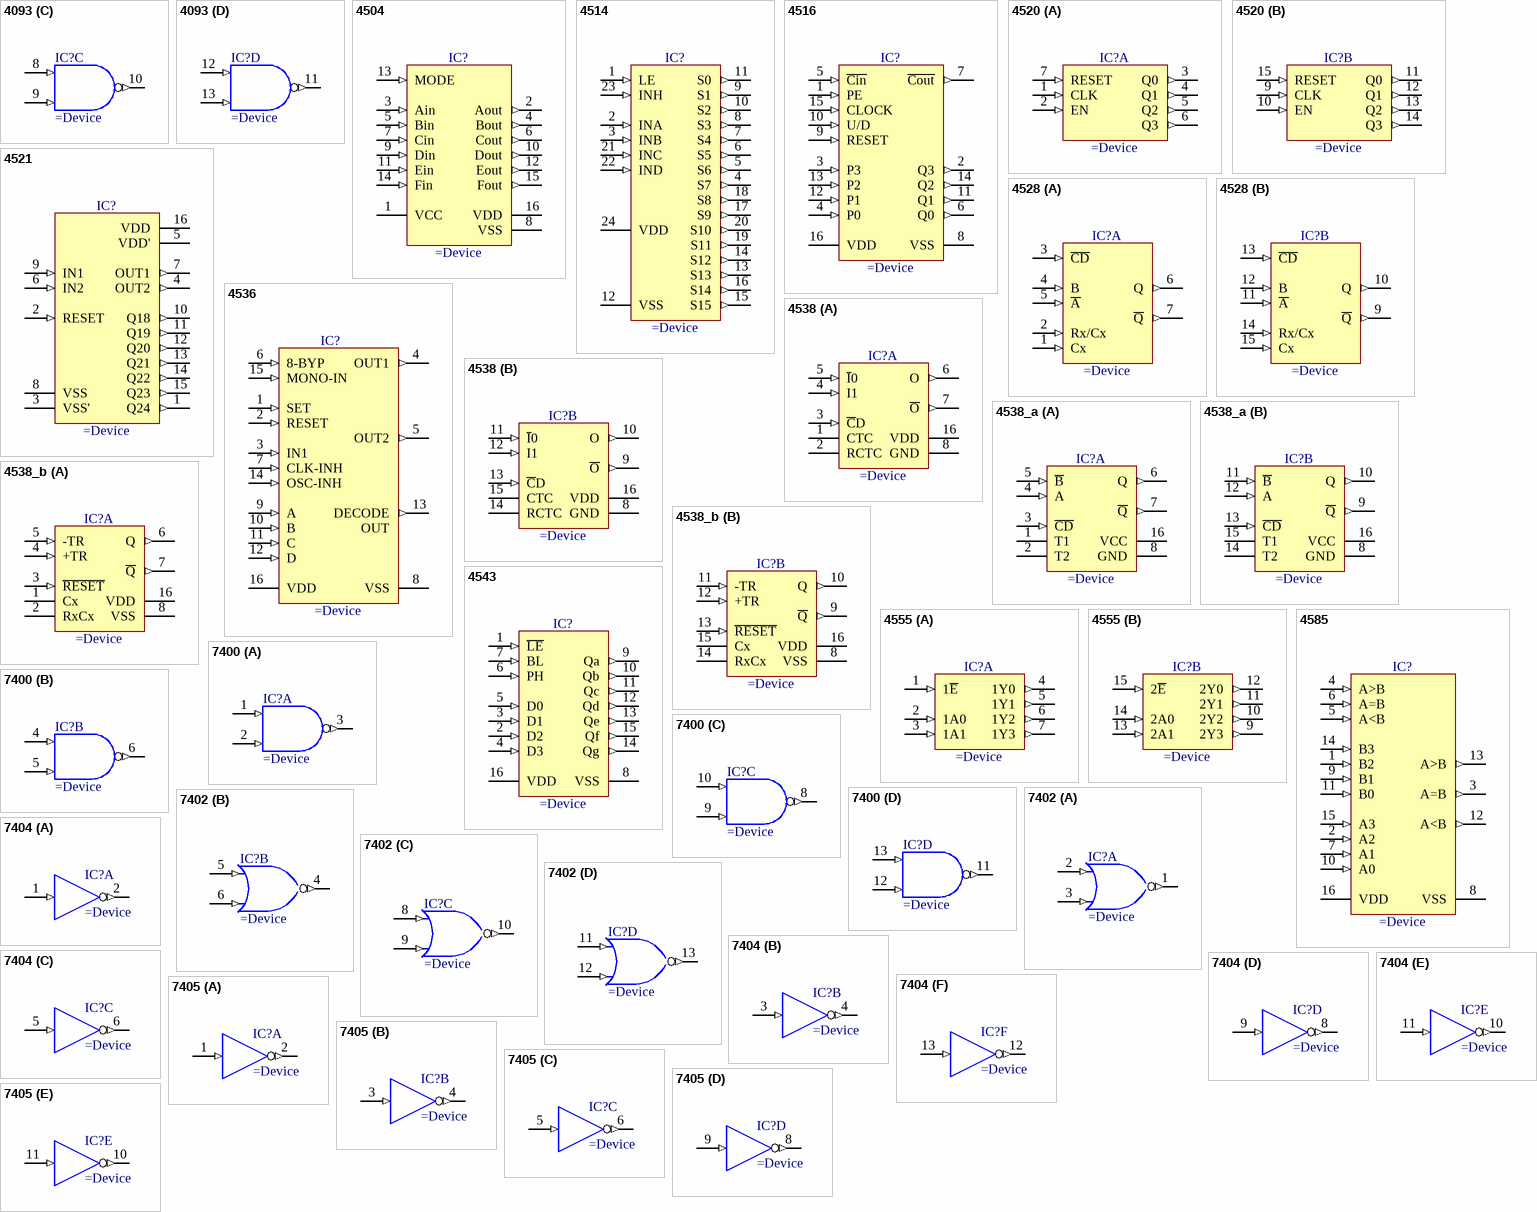
[diagram p4: symbols 4093 to 7405]

## 4093
designator IC?
Quad 2-Input NAND Schmitt Trigger
pins on every part: 7 VSS (power) hidden to GND, 14 VDD (power) hidden to VDD
part A pins: 1 IN1 (in), 2 IN2 (in), 3 OU~{T} (out)
part B pins: 4 OU~{T} (out), 5 IN1 (in), 6 IN2 (in)
part C pins: 8 IN1 (in), 9 IN2 (in), 10 OU~{T} (out)
part D pins: 11 OU~{T} (out), 12 IN1 (in), 13 IN2 (in)

## 4504
designator IC?
Hex Level Shifter for TTL to CMOS or CMOS to CMOS
pins: 1 VCC (power), 2 Aout (out), 3 Ain (in), 4 Bout (out), 5 Bin (in), 6 Cout (out), 7 Cin (in), 8 VSS (power), 9 Din (in), 10 Dout (out), 11 Ein (in), 12 Eout (out), 13 MODE (in), 14 Fin (in), 15 Fout (out), 16 VDD (power)

## 4514
designator IC?
4-to-16 Line Decoder with Latch
pins: 1 LE (in), 2 INA (in), 3 INB (in), 4 S7 (out), 5 S6 (out), 6 S5 (out), 7 S4 (out), 8 S3 (out), 9 S1 (out), 10 S2 (out), 11 S0 (out), 12 VSS (power), 13 S13 (out), 14 S12 (out), 15 S15 (out), 16 S14 (out), 17 S9 (out), 18 S8 (out), 19 S11 (out), 20 S10 (out), 21 INC (in), 22 IND (in), 23 INH (in), 24 VDD (power)

## 4516
designator IC?
Binary Up/Down Counter
pins: 1 PE (in), 2 Q3 (out), 3 P3 (in), 4 P0 (in), 5 ~{Cin} (in), 6 Q0 (out), 7 ~{Cout} (out), 8 VSS (power), 9 RESET (in), 10 U/D (in), 11 Q1 (out), 12 P1 (in), 13 P2 (in), 14 Q2 (out), 15 CLOCK (in), 16 VDD (power)

## 4520
designator IC?
Dual Binary Up Counter
pins on every part: 8 GND (power) hidden to GND, 16 VDD (power) hidden to VDD
part A pins: 1 CLK (in), 2 EN (in), 3 Q0 (out), 4 Q1 (out), 5 Q2 (out), 6 Q3 (out), 7 RESET (in)
part B pins: 9 CLK (in), 10 EN (in), 11 Q0 (out), 12 Q1 (out), 13 Q2 (out), 14 Q3 (out), 15 RESET (in)

## 4521
designator IC?
24-Stage Frequency Divider
pins: 1 Q24 (out), 2 RESET (in), 3 VSS' (power), 4 OUT2 (out), 5 VDD' (power), 6 IN2 (in), 7 OUT1 (out), 8 VSS (power), 9 IN1 (in), 10 Q18 (out), 11 Q19 (out), 12 Q20 (out), 13 Q21 (out), 14 Q22 (out), 15 Q23 (out), 16 VDD (power)

## 4528
designator IC?
Dual Monostable Multivibrator
pins on every part: 8 VSS (power) hidden to GND, 16 VDD (power) hidden to VDD
part A pins: 1 Cx (in), 2 Rx/Cx (in), 3 ~{CD} (in), 4 B (in), 5 ~{A} (in), 6 Q (out), 7 ~{Q} (out)
part B pins: 9 ~{Q} (out), 10 Q (out), 11 ~{A} (in), 12 B (in), 13 ~{CD} (in), 14 Rx/Cx (in), 15 Cx (in)

## 4536
designator IC?
Programmable Timer
pins: 1 SET (in), 2 RESET (in), 3 IN1 (in), 4 OUT1 (out), 5 OUT2 (out), 6 8-BYP (in), 7 CLK-INH (in), 8 VSS (power), 9 A (in), 10 B (in), 11 C (in), 12 D (in), 13 DECODE (out), 14 OSC-INH (in), 15 MONO-IN (in), 16 VDD (power)
text: OUT

## 4538
designator IC?
Dual Precision Retriggerable-Resettable Monostable
pins on every part: 8 GND (power), 16 VDD (power)
part A pins: 1 CTC, 2 RCTC, 3 ~{C}D (in), 4 I1 (in), 5 ~{I}0 (in), 6 O (out), 7 ~{O} (out)
part B pins: 9 ~{O} (out), 10 O (out), 11 ~{I}0 (in), 12 I1 (in), 13 ~{C}D (in), 14 RCTC, 15 CTC

## 4538_a
designator IC?
Dual Precision Retriggerable-Resettable Monostable
pins on every part: 8 GND (power), 16 VCC (power)
part A pins: 1 T1, 2 T2, 3 ~{CD} (in), 4 A (in), 5 ~{B} (in), 6 Q (out), 7 ~{Q} (out)
part B pins: 9 ~{Q} (out), 10 Q (out), 11 ~{B} (in), 12 A (in), 13 ~{CD} (in), 14 T2, 15 T1

## 4538_b
designator IC?
Dual Precision Monostable Multivibrator
pins on every part: 8 VSS (power), 16 VDD (power)
part A pins: 1 Cx, 2 RxCx, 3 ~{RESET} (in), 4 +TR (in), 5 -TR (in), 6 Q (out), 7 ~{Q} (out)
part B pins: 9 ~{Q} (out), 10 Q (out), 11 -TR (in), 12 +TR (in), 13 ~{RESET} (in), 14 RxCx, 15 Cx

## 4543
designator IC?
BCD to 7-Segment Latch/Decoder/Driver
pins: 1 ~{LE} (in), 2 D2 (in), 3 D1 (in), 4 D3 (in), 5 D0 (in), 6 PH (in), 7 BL (in), 8 VSS (power), 9 Qa (out), 10 Qb (out), 11 Qc (out), 12 Qd (out), 13 Qe (out), 14 Qg (out), 15 Qf (out), 16 VDD (power)

## 4555
designator IC?
Dual 2-to-4 line decoder/demultiplexer
part A pins: 1 1~{E} (in), 2 1A0 (in), 3 1A1 (in), 4 1Y0 (out), 5 1Y1 (out), 6 1Y2 (out), 7 1Y3 (out), 8 GND (power) hidden to GND, 16 VCC (power) hidden to VCC
part B pins: 9 2Y3 (out), 10 2Y2 (out), 11 2Y1 (out), 12 2Y0 (out), 13 2A1 (in), 14 2A0 (in), 15 2~{E} (in)

## 4585
designator IC?
4-Bit Magnitude Comparator
pins: 1 B2 (in), 2 A2 (in), 3 A=B (out), 4 A>B (in), 5 A<B (in), 6 A=B (in), 7 A1 (in), 8 VSS (power), 9 B1 (in), 10 A0 (in), 11 B0 (in), 12 A<B (out), 13 A>B (out), 14 B3 (in), 15 A3 (in), 16 VDD (power)

## 7400
designator IC?
Quad 2-Input NAND Gate
pins on every part: 7 GND (power) hidden to GND, 14 VCC (power) hidden to VCC
part A pins: 1 A (in), 2 B (in), 3 ~{O} (out)
part B pins: 4 A (in), 5 B (in), 6 ~{O} (out)
part C pins: 8 ~{O} (out), 9 B (in), 10 A (in)
part D pins: 11 ~{O} (out), 12 B (in), 13 A (in)

## 7402
designator IC?
Quad 2-Input NOR Gate
pins on every part: 7 GND (power) hidden to GND, 14 VCC (power) hidden to VCC
part A pins: 1 ~{O} (out), 2 A (in), 3 B (in)
part B pins: 4 ~{O} (out), 5 A (in), 6 B (in)
part C pins: 8 A (in), 9 B (in), 10 ~{O} (out)
part D pins: 11 A (in), 12 B (in), 13 ~{O} (out)

## 7404
designator IC?
Hex Inverter
pins on every part: 7 GND (power) hidden to GND, 14 VCC (power) hidden to VCC
part A pins: 1 A (in), 2 ~{O} (out)
part B pins: 3 A (in), 4 ~{O} (out)
part C pins: 5 A (in), 6 ~{O} (out)
part D pins: 8 ~{O} (out), 9 A (in)
part E pins: 10 ~{O} (out), 11 A (in)
part F pins: 12 ~{O} (out), 13 A (in)

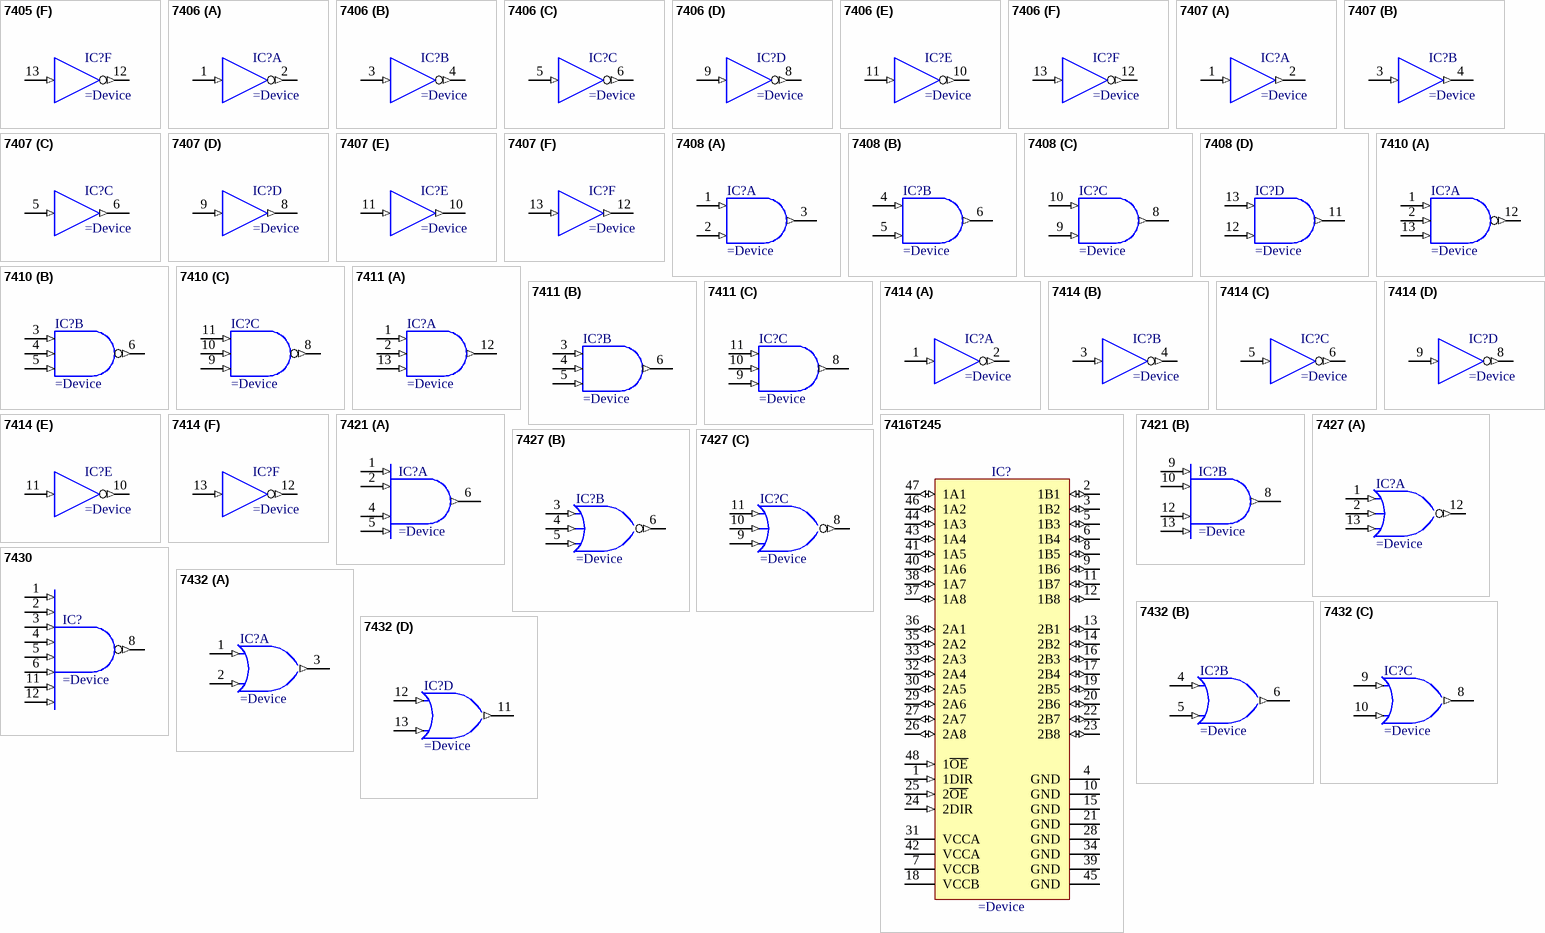
[diagram p5: symbols 7405 to 7432]

## 7405
designator IC?
Hex Inverters With Open-Collector Outputs
pins on every part: 7 GND (power) hidden to GND, 14 VCC (power) hidden to VCC
part A pins: 1 IN (in), 2 OUT (out)
part B pins: 3 IN (in), 4 OUT (out)
part C pins: 5 IN (in), 6 OUT (out)
part D pins: 8 OUT (out), 9 IN (in)
part E pins: 10 OUT (out), 11 IN (in)
part F pins: 12 OUT (out), 13 IN (in)

## 7406
designator IC?
Hex Inverter Buffers/Drivers With Open-Collector High-Voltage Output
pins on every part: 7 GND (power) hidden to GND, 14 VCC (power) hidden to VCC
part A pins: 1 IN (in), 2 OUT (out)
part B pins: 3 IN (in), 4 OUT (out)
part C pins: 5 IN (in), 6 OUT (out)
part D pins: 8 OUT (out), 9 IN (in)
part E pins: 10 OUT (out), 11 IN (in)
part F pins: 12 OUT (out), 13 IN (in)

## 7407
designator IC?
Hex Buffers/Drivers With Open-Drain Outputs
pins on every part: 7 GND (power) hidden to GND, 14 VCC (power) hidden to VCC
part A pins: 1 IN (in), 2 OUT (out)
part B pins: 3 IN (in), 4 OUT (out)
part C pins: 5 IN (in), 6 OUT (out)
part D pins: 8 OUT (out), 9 IN (in)
part E pins: 10 OUT (out), 11 IN (in)
part F pins: 12 OUT (out), 13 IN (in)

## 7408
designator IC?
Quad 2-Input AND Gate
pins on every part: 7 GND (power) hidden to GND, 14 VCC (power) hidden to VCC
part A pins: 1 A (in), 2 B (in), 3 Y (out)
part B pins: 4 A (in), 5 B (in), 6 Y (out)
part C pins: 8 Y (out), 9 B (in), 10 A (in)
part D pins: 11 Y (out), 12 B (in), 13 A (in)

## 7410
designator IC?
Triple 3-Input Positive NAND Gate
pins on every part: 7 VSS (power) hidden to GND, 14 VDD (power) hidden to VDD
part A pins: 1 IN1 (in), 2 IN2 (in), 12 OUT (out), 13 IN3 (in)
part B pins: 3 IN1 (in), 4 IN2 (in), 5 IN3 (in), 6 OUT (out)
part C pins: 8 OUT (out), 9 IN3 (in), 10 IN2 (in), 11 IN1 (in)

## 7411
designator IC?
Triple 3-Input AND Gate
pins on every part: 7 VSS (power) hidden to GND, 14 VDD (power) hidden to VDD
part A pins: 1 IN1 (in), 2 IN2 (in), 12 OUT (out), 13 IN3 (in)
part B pins: 3 IN1 (in), 4 IN2 (in), 5 IN3 (in), 6 OUT (out)
part C pins: 8 OUT (out), 9 IN3 (in), 10 IN2 (in), 11 IN1 (in)

## 7414
designator IC?
Hex Schmitt-Trigger Inverter
pins on every part: 7 GND (power) hidden to GND, 14 VCC (power) hidden to VCC
part A pins: 1 IN (in), 2 OUT (out)
part B pins: 3 IN (in), 4 OUT (out)
part C pins: 5 IN (in), 6 OUT (out)
part D pins: 8 OUT (out), 9 IN (in)
part E pins: 10 OUT (out), 11 IN (in)
part F pins: 12 OUT (out), 13 IN (in)

## 7416T245
designator IC?
16-BitDual Supply Bus Transceivers With Configurable Voltage Translation And 3-State Outputs
pins: 1 1DIR (in), 2 1B1 (io), 3 1B2 (io), 4 GND (power), 5 1B3 (io), 6 1B4 (io), 7 VCCB (power), 8 1B5 (io), 9 1B6 (io), 10 GND (power), 11 1B7 (io), 12 1B8 (io), 13 2B1 (io), 14 2B2 (io), 15 GND (power), 16 2B3 (io), 17 2B4 (io), 18 VCCB (power), 19 2B5 (io), 20 2B6 (io), 21 GND (power), 22 2B7 (io), 23 2B8 (io), 24 2DIR (in), 25 2~{OE} (in), 26 2A8 (io), 27 2A7 (io), 28 GND (power), 29 2A6 (io), 30 2A5 (io), 31 VCCA (power), 32 2A4 (io), 33 2A3 (io), 34 GND (power), 35 2A2 (io), 36 2A1 (io), 37 1A8 (io), 38 1A7 (io), 39 GND (power), 40 1A6 (io), 41 1A5 (io), 42 VCCA (power), 43 1A4 (io), 44 1A3 (io), 45 GND (power), 46 1A2 (io), 47 1A1 (io), 48 1~{OE} (in)

## 7421
designator IC?
Dual 4-Input Positive-AND Gate
pins on every part: 7 GND (power) hidden to GND, 14 VCC (power) hidden to VCC
part A pins: 1 A (in), 2 B (in), 4 C (in), 5 D (in), 6 Y (out)
part B pins: 8 Y (out), 9 A (in), 10 B (in), 12 C (in), 13 D (in)

## 7427
designator IC?
Triple 3-Input NOR Gate
pins on every part: 7 VSS (power) hidden to GND, 14 VDD (power) hidden to VDD
part A pins: 1 IN1 (in), 2 IN2 (in), 12 OUT (out), 13 IN3 (in)
part B pins: 3 IN1 (in), 4 IN2 (in), 5 IN3 (in), 6 OUT (out)
part C pins: 8 OUT (out), 9 IN3 (in), 10 IN2 (in), 11 IN1 (in)

## 7430
designator IC?
8-Input NAND Gate
pins: 1 A (in), 2 B (in), 3 C (in), 4 D (in), 5 E (in), 6 F (in), 7 GND (power) hidden to GND, 8 Y (out), 11 G (in), 12 H (in), 14 VCC (power) hidden to VCC

## 7432
designator IC?
Quad 2-Input OR Gate
pins on every part: 7 GND (power) hidden to GND, 14 VCC (power) hidden to VCC
part A pins: 1 A (in), 2 B (in), 3 Y (out)
part B pins: 4 A (in), 5 B (in), 6 Y (out)
part C pins: 8 Y (out), 9 A (in), 10 B (in)
part D pins: 11 Y (out), 12 A (in), 13 B (in)

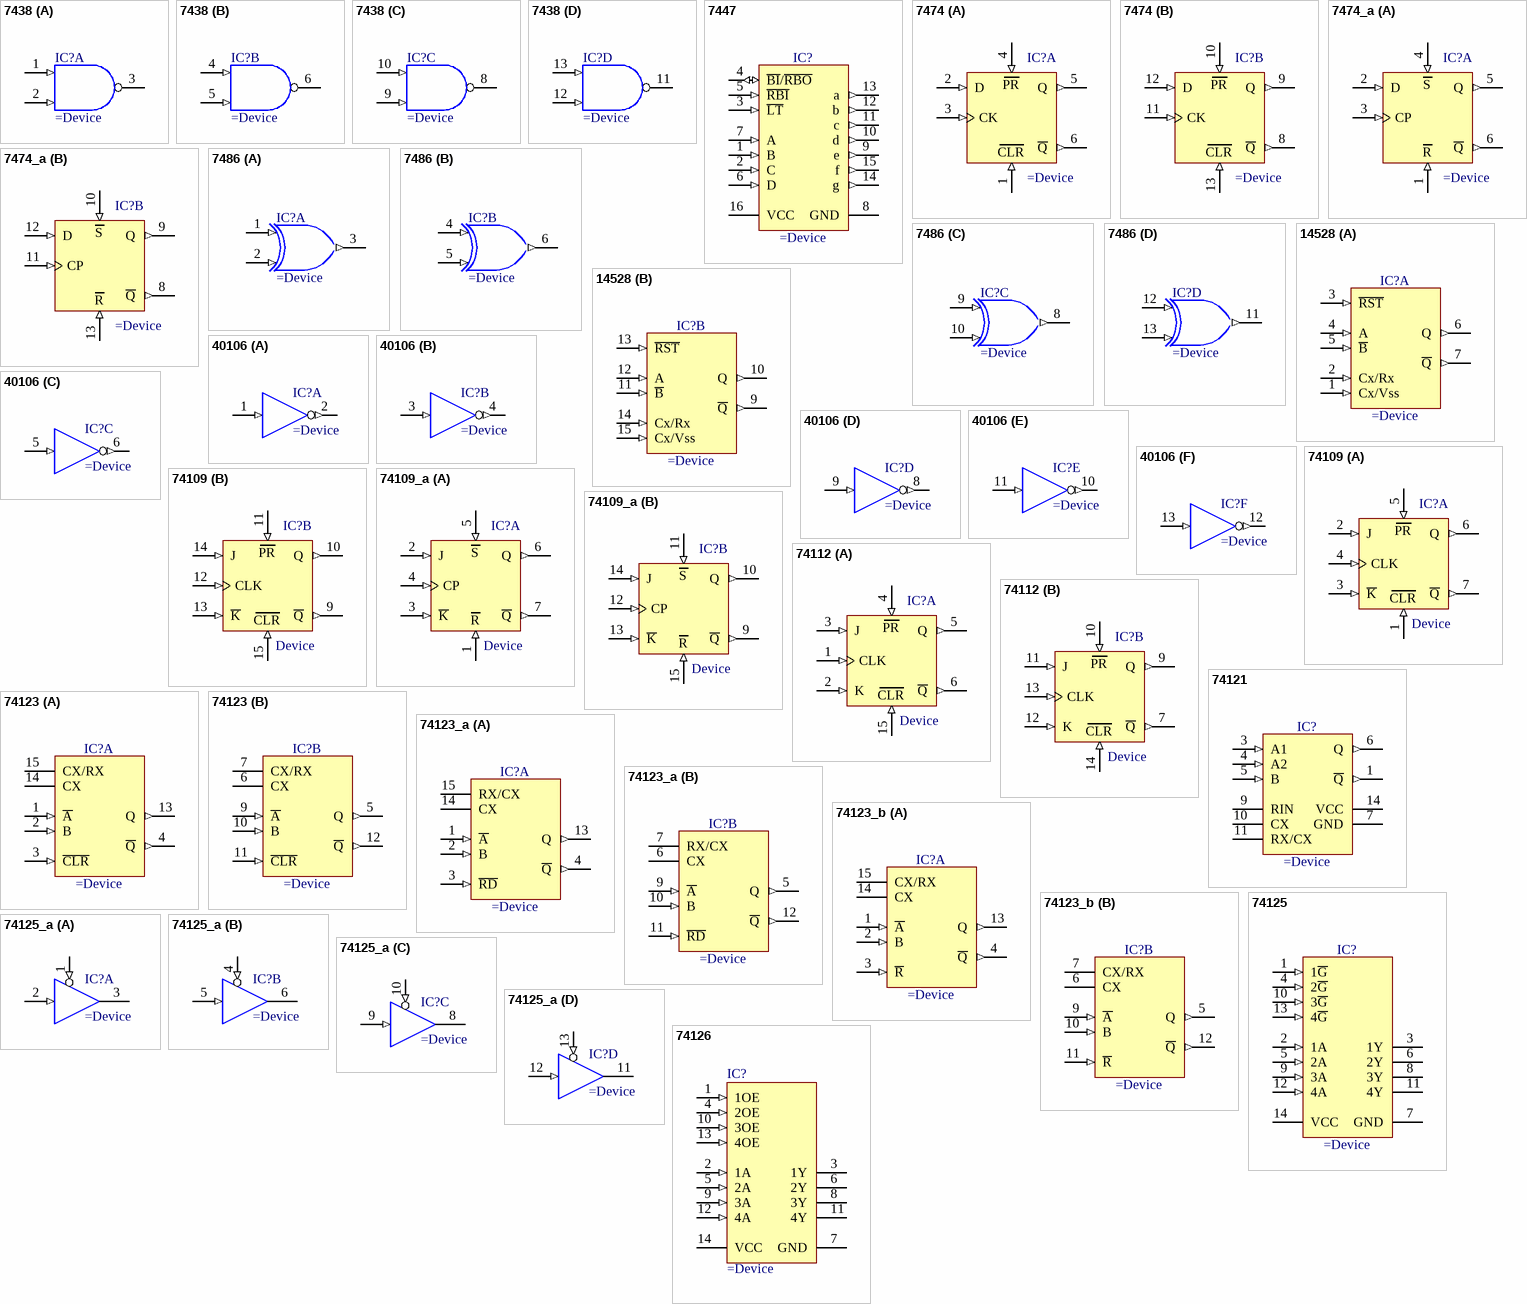
[diagram p6: symbols 7438 to 74126]

## 7438
designator IC?
Quadruple 2-Input Positive-NAND Buffer With Open-Collector Outputs
pins on every part: 7 GND (power) hidden to GND, 14 VCC (power) hidden to VCC
part A pins: 1 A (in), 2 B (in), 3 ~{O} (oc)
part B pins: 4 A (in), 5 B (in), 6 ~{O} (oc)
part C pins: 8 ~{O} (oc), 9 B (in), 10 A (in)
part D pins: 11 ~{O} (oc), 12 B (in), 13 A (in)

## 7447
designator IC?
BCD-to-Seven-Segment Decoder/Driver
pins: 1 B (in), 2 C (in), 3 ~{LT} (in), 4 ~{BI}/~{RBO} (io), 5 ~{RBI} (in), 6 D (in), 7 A (in), 8 GND (power), 9 e (out), 10 d (out), 11 c (out), 12 b (out), 13 a (out), 14 g (out), 15 f (out), 16 VCC (power)

## 7474
designator IC?
Dual D-Type Flip Flop with Preset and Clear
pins on every part: 7 GND (power) hidden to GND, 14 VCC (power) hidden to VCC
part A pins: 1 ~{CLR} (in), 2 D (in), 3 CK (in), 4 ~{PR} (in), 5 Q (out), 6 ~{Q} (out)
part B pins: 8 ~{Q} (out), 9 Q (out), 10 ~{PR} (in), 11 CK (in), 12 D (in), 13 ~{CLR} (in)
part A text: PR; CLR
part B text: PR; CLR

## 7474_a
designator IC?
Dual D-Type Flip Flop with Preset and Clear
pins on every part: 7 GND (power) hidden to GND, 14 VCC (power) hidden to VCC
part A pins: 1 ~{R} (in), 2 D (in), 3 CP (in), 4 ~{S} (in), 5 Q (out), 6 ~{Q} (out)
part B pins: 8 ~{Q} (out), 9 Q (out), 10 ~{S} (in), 11 CP (in), 12 D (in), 13 ~{R} (in)
part A text: S; R
part B text: S; R

## 7486
designator IC?
Quadruple 2-Input Exclusive-OR Gates
pins on every part: 7 GND (power) hidden to GND, 14 VCC (power) hidden to VCC
part A pins: 1 A (in), 2 B (in), 3 ~{O} (out)
part B pins: 4 A (in), 5 B (in), 6 ~{O} (out)
part C pins: 8 ~{O} (out), 9 A (in), 10 B (in)
part D pins: 11 ~{O} (out), 12 A (in), 13 B (in)

## 14528
designator IC?
Dual Monostable Multivibrator
pins on every part: 8 VSS (power) hidden to GND, 16 VDD (power) hidden to VDD
part A pins: 1 Cx/Vss (in), 2 Cx/Rx (in), 3 ~{RST} (in), 4 A (in), 5 ~{B} (in), 6 Q (out), 7 ~{Q} (out)
part B pins: 9 ~{Q} (out), 10 Q (out), 11 ~{B} (in), 12 A (in), 13 ~{RST} (in), 14 Cx/Rx (in), 15 Cx/Vss (in)

## 40106
designator IC?
Hex Inverting Schmitt-Trigger
pins on every part: 7 VSS (power) hidden to GND, 14 VDD (power) hidden to VDD
part A pins: 1 IN (in), 2 OUT (out)
part B pins: 3 IN (in), 4 OUT (out)
part C pins: 5 IN (in), 6 OUT (out)
part D pins: 8 OUT (out), 9 IN (in)
part E pins: 10 OUT (out), 11 IN (in)
part F pins: 12 OUT (out), 13 IN (in)

## 74109
designator IC?, comment Device
Dual J-K Positive Edge-Triggered Flip-Flop
pins on every part: 8 GND (power) hidden to GND, 16 VCC (power) hidden to VCC
part A pins: 1 ~{CLR} (in), 2 J (in), 3 ~{K} (in), 4 CLK (in), 5 ~{PRE} (in), 6 Q (out), 7 ~{Q} (out)
part B pins: 9 ~{Q} (out), 10 Q (out), 11 ~{PRE} (in), 12 CLK (in), 13 ~{K} (in), 14 J (in), 15 ~{CLR} (in)
part A text: PR; CLR
part B text: PR; CLR

## 74109_a
designator IC?, comment Device
Dual J-K Positive Edge-Triggered Flip-Flop
pins on every part: 8 GND (power) hidden to GND, 16 VCC (power) hidden to VCC
part A pins: 1 ~{R} (in), 2 J (in), 3 ~{K} (in), 4 CP (in), 5 ~{S} (in), 6 Q (out), 7 ~{Q} (out)
part B pins: 9 ~{Q} (out), 10 Q (out), 11 ~{S} (in), 12 CP (in), 13 ~{K} (in), 14 J (in), 15 ~{R} (in)
part A text: S; R
part B text: S; R

## 74112
designator IC?, comment Device
Dual Negative-Edge-Triggered J-K Flip-Flop With Clear And Preset
pins on every part: 8 GND (power) hidden to GND, 16 VCC (power) hidden to VCC
part A pins: 1 CLK (in), 2 K (in), 3 J (in), 4 ~{PRE} (in), 5 Q (out), 6 ~{Q} (out), 15 ~{CLR} (in)
part B pins: 7 ~{Q} (out), 9 Q (out), 10 ~{PRE} (in), 11 J (in), 12 K (in), 13 CLK (in), 14 ~{CLR} (in)
part A text: PR; CLR
part B text: PR; CLR

## 74121
designator IC?
Monostable Multivibrator with Schmitt-Trigger Inputs
pins: 1 ~{Q} (out), 3 A1 (in), 4 A2 (in), 5 B (in), 6 Q (out), 7 GND (power), 9 RIN, 10 CX, 11 RX/CX, 14 VCC (power)

## 74123
designator IC?
Retriggerable Monostable Multivibrator
pins on every part: 8 GND (power) hidden to GND, 16 VCC (power) hidden to VCC
part A pins: 1 ~{A} (in), 2 B (in), 3 ~{CLR} (in), 4 ~{Q} (out), 13 Q (out), 14 CX, 15 CX/RX
part B pins: 5 Q (out), 6 CX, 7 CX/RX, 9 ~{A} (in), 10 B (in), 11 ~{CLR} (in), 12 ~{Q} (out)

## 74123_a
designator IC?
Retriggerable Monostable Multivibrator
pins on every part: 8 GND (power) hidden to GND, 16 VCC (power) hidden to VCC
part A pins: 1 ~{A} (in), 2 B (in), 3 ~{RD} (in), 4 ~{Q} (out), 13 Q (out), 14 CX, 15 RX/CX
part B pins: 5 Q (out), 6 CX, 7 RX/CX, 9 ~{A} (in), 10 B (in), 11 ~{RD} (in), 12 ~{Q} (out)

## 74123_b
designator IC?
Retriggerable Monostable Multivibrator
pins on every part: 8 GND (power) hidden to GND, 16 VCC (power) hidden to VCC
part A pins: 1 ~{A} (in), 2 B (in), 3 ~{R} (in), 4 ~{Q} (out), 13 Q (out), 14 CX, 15 CX/RX
part B pins: 5 Q (out), 6 CX, 7 CX/RX, 9 ~{A} (in), 10 B (in), 11 ~{R} (in), 12 ~{Q} (out)

## 74125
designator IC?
Quadruple Bus Buffer with 3-State Outputs
pins: 1 1~{G} (in), 2 1A (in), 3 1Y (hiz), 4 2~{G} (in), 5 2A (in), 6 2Y (hiz), 7 GND (power), 8 3Y (hiz), 9 3A (in), 10 3~{G} (in), 11 4Y (hiz), 12 4A (in), 13 4~{G} (in), 14 VCC (power)

## 74125_a
designator IC?
Quadruple Bus Buffer with 3-State Outputs
pins on every part: 7 GND (power) hidden to GND, 14 VCC (power) hidden to VCC
part A pins: 1 ~{G} (in), 2 IN (in), 3 OUT (hiz)
part B pins: 4 ~{G} (in), 5 IN (in), 6 OUT (hiz)
part C pins: 8 OUT (hiz), 9 IN (in), 10 ~{G} (in)
part D pins: 11 OUT (hiz), 12 IN (in), 13 ~{G} (in)

## 74126
designator IC?
Quadruple Bus Buffer with 3-State Outputs
pins: 1 1OE (in), 2 1A (in), 3 1Y (hiz), 4 2OE (in), 5 2A (in), 6 2Y (hiz), 7 GND (power), 8 3Y (hiz), 9 3A (in), 10 3OE (in), 11 4Y (hiz), 12 4A (in), 13 4OE (in), 14 VCC (power)

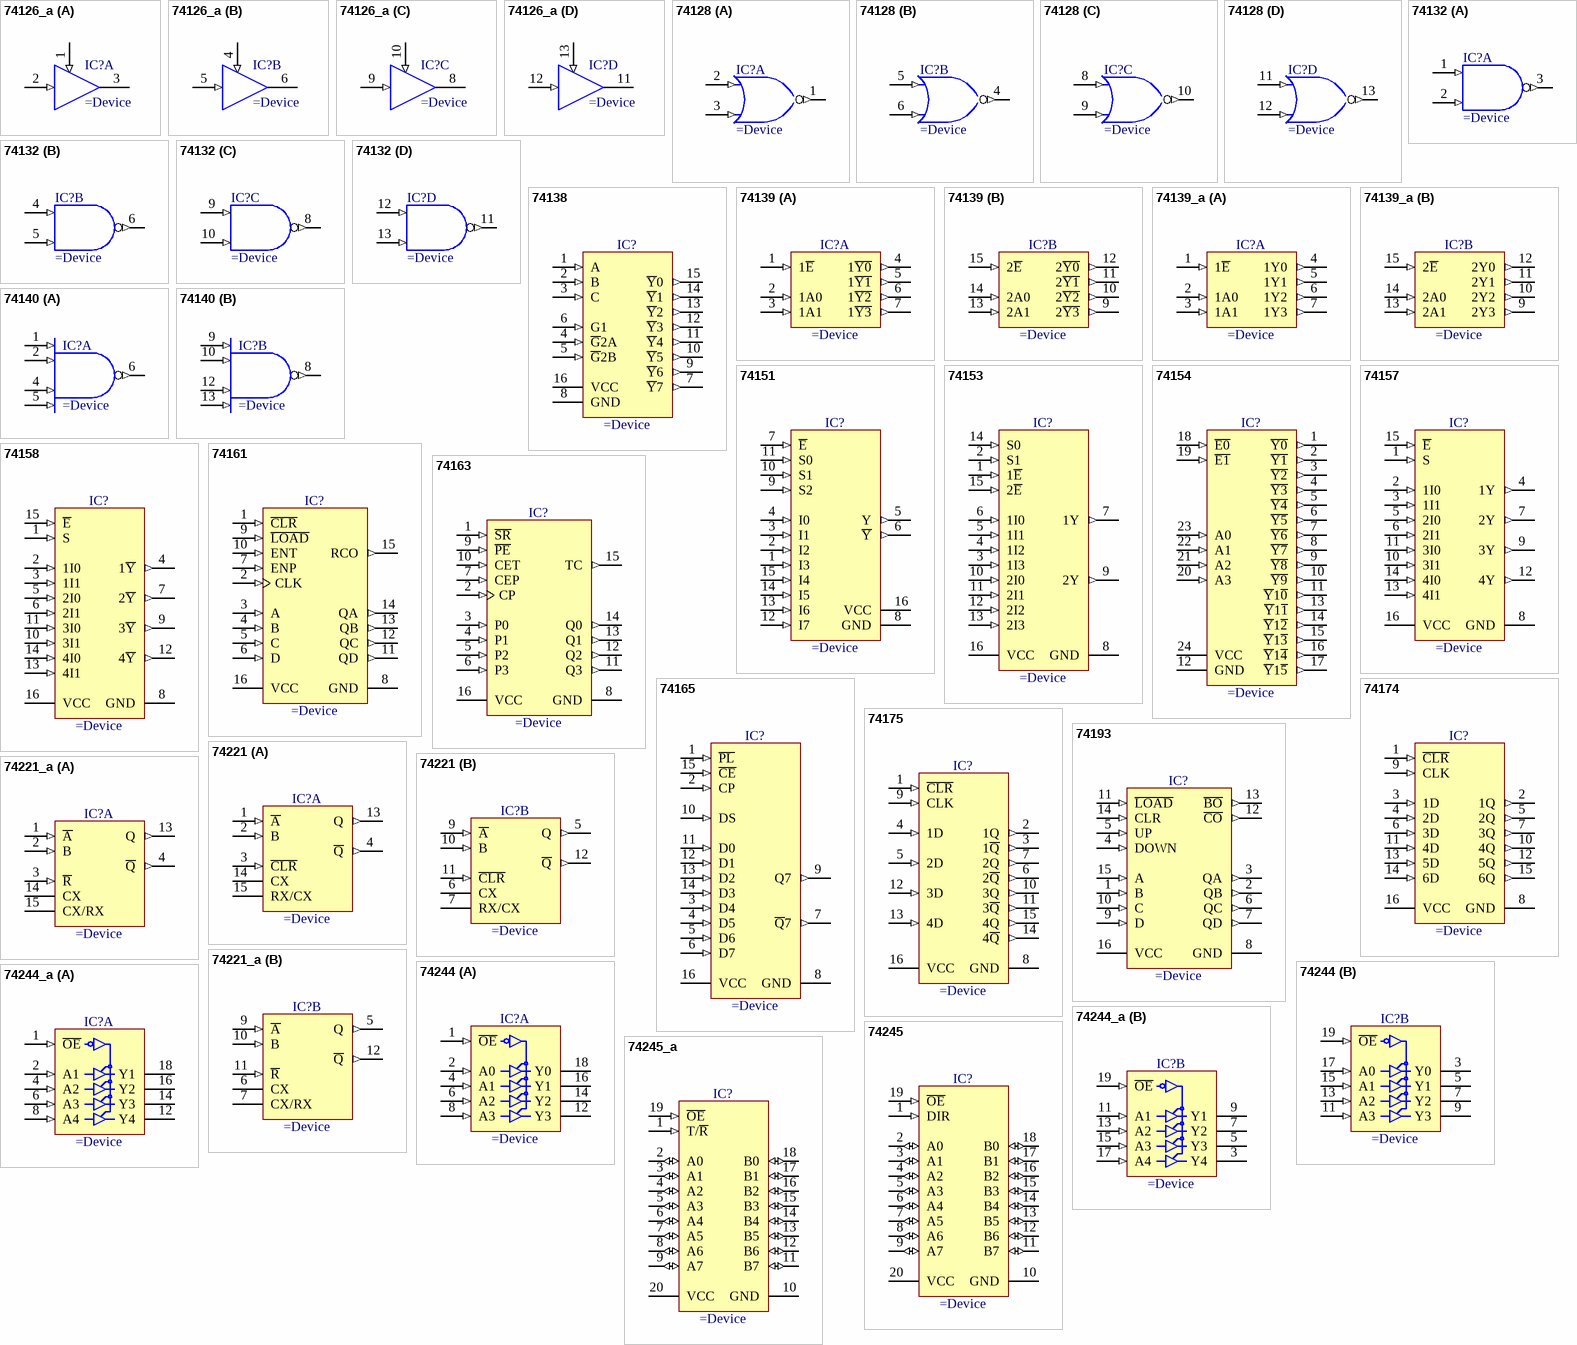
[diagram p7: symbols 74126_a to 74245_a]

## 74126_a
designator IC?
Quadruple Bus Buffer Gate With 3-State Outputs
part A pins: 1 OE (in), 2 A (in), 3 Y (hiz), 7 GND (power) hidden to GND, 14 VCC (power) hidden to VCC
part B pins: 4 OE (in), 5 A (in), 6 Y (hiz)
part C pins: 8 Y (hiz), 9 A (in), 10 OE (in)
part D pins: 11 Y (hiz), 12 A (in), 13 OE (in)

## 74128
designator IC?
Quad 2-Input NOR Line Driver
pins on every part: 7 GND (power) hidden to GND, 14 VCC (power) hidden to VCC
part A pins: 1 Y (out), 2 A (in), 3 B (in)
part B pins: 4 Y (out), 5 A (in), 6 B (in)
part C pins: 8 A (in), 9 B (in), 10 Y (out)
part D pins: 11 A (in), 12 B (in), 13 Y (out)

## 74132
designator IC?
Quad Positive NAND Gate With Schmitt-Trigger Input
pins on every part: 7 GND (power) hidden to GND, 14 VCC (power) hidden to VCC
part A pins: 1 A (in), 2 B (in), 3 ~{O} (out)
part B pins: 4 A (in), 5 B (in), 6 ~{O} (out)
part C pins: 8 ~{O} (out), 9 A (in), 10 B (in)
part D pins: 11 ~{O} (out), 12 A (in), 13 B (in)

## 74138
designator IC?
3-Line to 8-Line Decoder/Demultiplexer
pins: 1 A (in), 2 B (in), 3 C (in), 4 ~{G}2A (in), 5 ~{G}2B (in), 6 G1 (in), 7 ~{Y}7 (out), 8 GND (power), 9 ~{Y}6 (out), 10 ~{Y}5 (out), 11 ~{Y}4 (out), 12 ~{Y}3 (out), 13 ~{Y}2 (out), 14 ~{Y}1 (out), 15 ~{Y}0 (out), 16 VCC (power)

## 74139
designator IC?
Dual 2-to-4 line decoder/demultiplexer
part A pins: 1 1~{E} (in), 2 1A0 (in), 3 1A1 (in), 4 1~{Y0} (out), 5 1~{Y1} (out), 6 1~{Y2} (out), 7 1~{Y3} (out), 8 GND (power) hidden to GND, 16 VCC (power) hidden to VCC
part B pins: 9 2~{Y3} (out), 10 2~{Y2} (out), 11 2~{Y1} (out), 12 2~{Y0} (out), 13 2A1 (in), 14 2A0 (in), 15 2~{E} (in)

## 74139_a
designator IC?
Dual 2-to-4 line decoder/demultiplexer
part A pins: 1 1~{E} (in), 2 1A0 (in), 3 1A1 (in), 4 1Y0 (out), 5 1Y1 (out), 6 1Y2 (out), 7 1Y3 (out), 8 GND (power) hidden to GND, 16 VCC (power) hidden to VCC
part B pins: 9 2Y3 (out), 10 2Y2 (out), 11 2Y1 (out), 12 2Y0 (out), 13 2A1 (in), 14 2A0 (in), 15 2~{E} (in)

## 74140
designator IC?
Dual 4-Input Positive-NAND 50-Ohm Line Drivers
pins on every part: 7 GND (power) hidden to GND, 14 VCC (power) hidden to VCC
part A pins: 1 A (in), 2 B (in), 4 C (in), 5 D (in), 6 Y (out)
part B pins: 8 Y (out), 9 A (in), 10 B (in), 12 C (in), 13 D (in)

## 74151
designator IC?
8-Input Multiplexer
pins: 1 I3 (in) "data output (active LOW)", 2 I2 (in) "data output (active LOW)", 3 I1 (in) "data output (active LOW)", 4 I0 (in) "data output (active LOW)", 5 Y (out) "data output (active LOW)", 6 ~{Y} (out) "data output (active LOW)", 7 ~{E} (in) "data output (active LOW)", 8 GND (power) "data output (active LOW)", 9 S2 (in) "data output (active LOW)", 10 S1 (in) "data output (active LOW)", 11 S0 (in) "data output (active LOW)", 12 I7 (in) "data output (active LOW)", 13 I6 (in) "data output (active LOW)", 14 I5 (in) "data output (active LOW)", 15 I4 (in) "data output (active LOW)", 16 VCC (power) "data output (active LOW)"

## 74153
designator IC?
Dual 4-Input Multiplexer
pins: 1 1~{E} (in), 2 S1 (in), 3 1I3 (in), 4 1I2 (in), 5 1I1 (in), 6 1I0 (in), 7 1Y (out), 8 GND (power), 9 2Y (out), 10 2I0 (in), 11 2I1 (in), 12 2I2 (in), 13 2I3 (in), 14 S0 (in), 15 2~{E} (in), 16 VCC (power)

## 74154
designator IC?
4-to-16 Line Decoder/Demultiplexer
pins: 1 ~{Y0} (out) "data output (active LOW)", 2 ~{Y1} (out) "data output (active LOW)", 3 ~{Y2} (out) "data output (active LOW)", 4 ~{Y3} (out) "data output (active LOW)", 5 ~{Y4} (out) "data output (active LOW)", 6 ~{Y5} (out) "data output (active LOW)", 7 ~{Y6} (out) "data output (active LOW)", 8 ~{Y7} (out) "data output (active LOW)", 9 ~{Y8} (out) "data output (active LOW)", 10 ~{Y9} (out) "data output (active LOW)", 11 ~{Y}1~{0} (out) "data output (active LOW)", 12 GND (power) "ground (0 V)", 13 ~{Y}1~{1} (out) "data output (active LOW)", 14 ~{Y}1~{2} (out) "data output (active LOW)", 15 ~{Y}1~{3} (out) "data output (active LOW)", 16 ~{Y}1~{4} (out) "data output (active LOW)", 17 ~{Y}1~{5} (out) "data output (active LOW)", 18 ~{E0} (in) "enable input (active LOW)", 19 ~{E1} (in) "enable input (active LOW)", 20 A3 (in) "address input", 21 A2 (in) "address input", 22 A1 (in) "address input", 23 A0 (in) "address input", 24 VCC (power) "supply voltage"

## 74157
designator IC?
Quad 2-Input Multiplexer
pins: 1 S (in) "data output (active LOW)", 2 1I0 (in) "data output (active LOW)", 3 1I1 (in) "data output (active LOW)", 4 1Y (out) "data output (active LOW)", 5 2I0 (in) "data output (active LOW)", 6 2I1 (in) "data output (active LOW)", 7 2Y (out) "data output (active LOW)", 8 GND (power) "data output (active LOW)", 9 3Y (out) "data output (active LOW)", 10 3I1 (in) "data output (active LOW)", 11 3I0 (in) "data output (active LOW)", 12 4Y (out) "data output (active LOW)", 13 4I1 (in) "data output (active LOW)", 14 4I0 (in) "data output (active LOW)", 15 ~{E} (in) "data output (active LOW)", 16 VCC (power) "data output (active LOW)"

## 74158
designator IC?
Quad 2-Input Multiplexer, Inverting
pins: 1 S (in) "data output (active LOW)", 2 1I0 (in) "data output (active LOW)", 3 1I1 (in) "data output (active LOW)", 4 1~{Y} (out) "data output (active LOW)", 5 2I0 (in) "data output (active LOW)", 6 2I1 (in) "data output (active LOW)", 7 2~{Y} (out) "data output (active LOW)", 8 GND (power) "data output (active LOW)", 9 3~{Y} (out) "data output (active LOW)", 10 3I1 (in) "data output (active LOW)", 11 3I0 (in) "data output (active LOW)", 12 4~{Y} (out) "data output (active LOW)", 13 4I1 (in) "data output (active LOW)", 14 4I0 (in) "data output (active LOW)", 15 ~{E} (in) "data output (active LOW)", 16 VCC (power) "data output (active LOW)"

## 74161
designator IC?
Synchronous 4-Bit Decade and Binary Counter
pins: 1 ~{CLR} (in), 2 CLK (in), 3 A (in), 4 B (in), 5 C (in), 6 D (in), 7 ENP (in), 8 GND (power), 9 ~{LOAD} (in), 10 ENT (in), 11 QD (out), 12 QC (out), 13 QB (out), 14 QA (out), 15 RCO (out), 16 VCC (power)

## 74163
designator IC?
Synchronous 4-Bit Decade and Binary Counter
pins: 1 ~{SR} (in), 2 CP (in), 3 P0 (in), 4 P1 (in), 5 P2 (in), 6 P3 (in), 7 CEP (in), 8 GND (power), 9 ~{PE} (in), 10 CET (in), 11 Q3 (out), 12 Q2 (out), 13 Q1 (out), 14 Q0 (out), 15 TC (out), 16 VCC (power)

## 74165
designator IC?
8-Bit Parallel-In/Serial Out Shift Register
pins: 1 ~{PL} (in), 2 CP (in), 3 D4 (in), 4 D5 (in), 5 D6 (in), 6 D7 (in), 7 ~{Q}7 (out), 8 GND (power), 9 Q7 (out), 10 DS (in), 11 D0 (in), 12 D1 (in), 13 D2 (in), 14 D3 (in), 15 ~{CE} (in), 16 VCC (power)

## 74174
designator IC?
Hex D-Type Flip-Flops with Clear
pins: 1 ~{CLR} (in), 2 1Q (out), 3 1D (in), 4 2D (in), 5 2Q (out), 6 3D (in), 7 3Q (out), 8 GND (power), 9 CLK (in), 10 4Q (out), 11 4D (in), 12 5Q (out), 13 5D (in), 14 6D (in), 15 6Q (out), 16 VCC (power)

## 74175
designator IC?
Quadruple D-Type Flip-Flops with Clear
pins: 1 ~{CLR} (in), 2 1Q (out), 3 1~{Q} (out), 4 1D (in), 5 2D (in), 6 2~{Q} (out), 7 2Q (out), 8 GND (power), 9 CLK (in), 10 3Q (out), 11 3~{Q} (out), 12 3D (in), 13 4D (in), 14 4~{Q} (out), 15 4Q (out), 16 VCC (power)

## 74193
designator IC?
Synchronous 4-Bit Up/Down Binary Counters With Dual Clock and Clear
pins: 1 B (in), 2 QB (out), 3 QA (out), 4 DOWN (in), 5 UP (in), 6 QC (out), 7 QD (out), 8 GND (power), 9 D (in), 10 C (in), 11 ~{LOAD} (in), 12 ~{CO} (out), 13 ~{BO} (out), 14 CLR (in), 15 A (in), 16 VCC (power)

## 74221
designator IC?
Dual Non-Retriggerable Monostable Multivibrator with Reset
pins on every part: 8 GND (power) hidden to GND, 16 VCC (power) hidden to VCC
part A pins: 1 ~{A} (in), 2 B (in), 3 ~{CLR} (in), 4 ~{Q} (out), 13 Q (out), 14 CX, 15 RX/CX
part B pins: 5 Q (out), 6 CX, 7 RX/CX, 9 ~{A} (in), 10 B (in), 11 ~{CLR} (in), 12 ~{Q} (out)

## 74221_a
designator IC?
Dual Non-Retriggerable Monostable Multivibrator with Reset
pins on every part: 8 GND (power) hidden to GND, 16 VCC (power) hidden to VCC
part A pins: 1 ~{A} (in), 2 B (in), 3 ~{R} (in), 4 ~{Q} (out), 13 Q (out), 14 CX, 15 CX/RX
part B pins: 5 Q (out), 6 CX, 7 CX/RX, 9 ~{A} (in), 10 B (in), 11 ~{R} (in), 12 ~{Q} (out)

## 74244
designator IC?
Octal Buffer And Line Driver with 3-State Ouputs
pins on every part: 10 GND (power) hidden to GND, 20 VCC (power) hidden to VCC
part A pins: 1 ~{OE} (in), 2 A0 (in), 4 A1 (in), 6 A2 (in), 8 A3 (in), 12 Y3 (hiz), 14 Y2 (hiz), 16 Y1 (hiz), 18 Y0 (hiz)
part B pins: 3 Y0 (hiz), 5 Y1 (hiz), 7 Y2 (hiz), 9 Y3 (hiz), 11 A3 (in), 13 A2 (in), 15 A1 (in), 17 A0 (in), 19 ~{OE} (in)

## 74244_a
designator IC?
Octal Buffer/Driver with 3-State Ouputs
pins on every part: 10 GND (power) hidden to GND, 20 VCC (power) hidden to VCC
part A pins: 1 ~{OE} (in), 2 A1 (in), 4 A2 (in), 6 A3 (in), 8 A4 (in), 12 Y4 (hiz), 14 Y3 (hiz), 16 Y2 (hiz), 18 Y1 (hiz)
part B pins: 3 Y4 (hiz), 5 Y3 (hiz), 7 Y2 (hiz), 9 Y1 (hiz), 11 A1 (in), 13 A2 (in), 15 A3 (in), 17 A4 (in), 19 ~{OE} (in)

## 74245
designator IC?
Octal Bi-Directional Transceiver with 3-State Inputs/Outputs
pins: 1 DIR (in), 2 A0 (io), 3 A1 (io), 4 A2 (io), 5 A3 (io), 6 A4 (io), 7 A5 (io), 8 A6 (io), 9 A7 (io), 10 GND (power), 11 B7 (io), 12 B6 (io), 13 B5 (io), 14 B4 (io), 15 B3 (io), 16 B2 (io), 17 B1 (io), 18 B0 (io), 19 ~{OE} (in), 20 VCC (power)

## 74245_a
designator IC?
Octal Bi-Directional Transceiver with 3-State Inputs/Outputs
pins: 1 T/~{R} (in), 2 A0 (io), 3 A1 (io), 4 A2 (io), 5 A3 (io), 6 A4 (io), 7 A5 (io), 8 A6 (io), 9 A7 (io), 10 GND (power), 11 B7 (io), 12 B6 (io), 13 B5 (io), 14 B4 (io), 15 B3 (io), 16 B2 (io), 17 B1 (io), 18 B0 (io), 19 ~{OE} (in), 20 VCC (power)

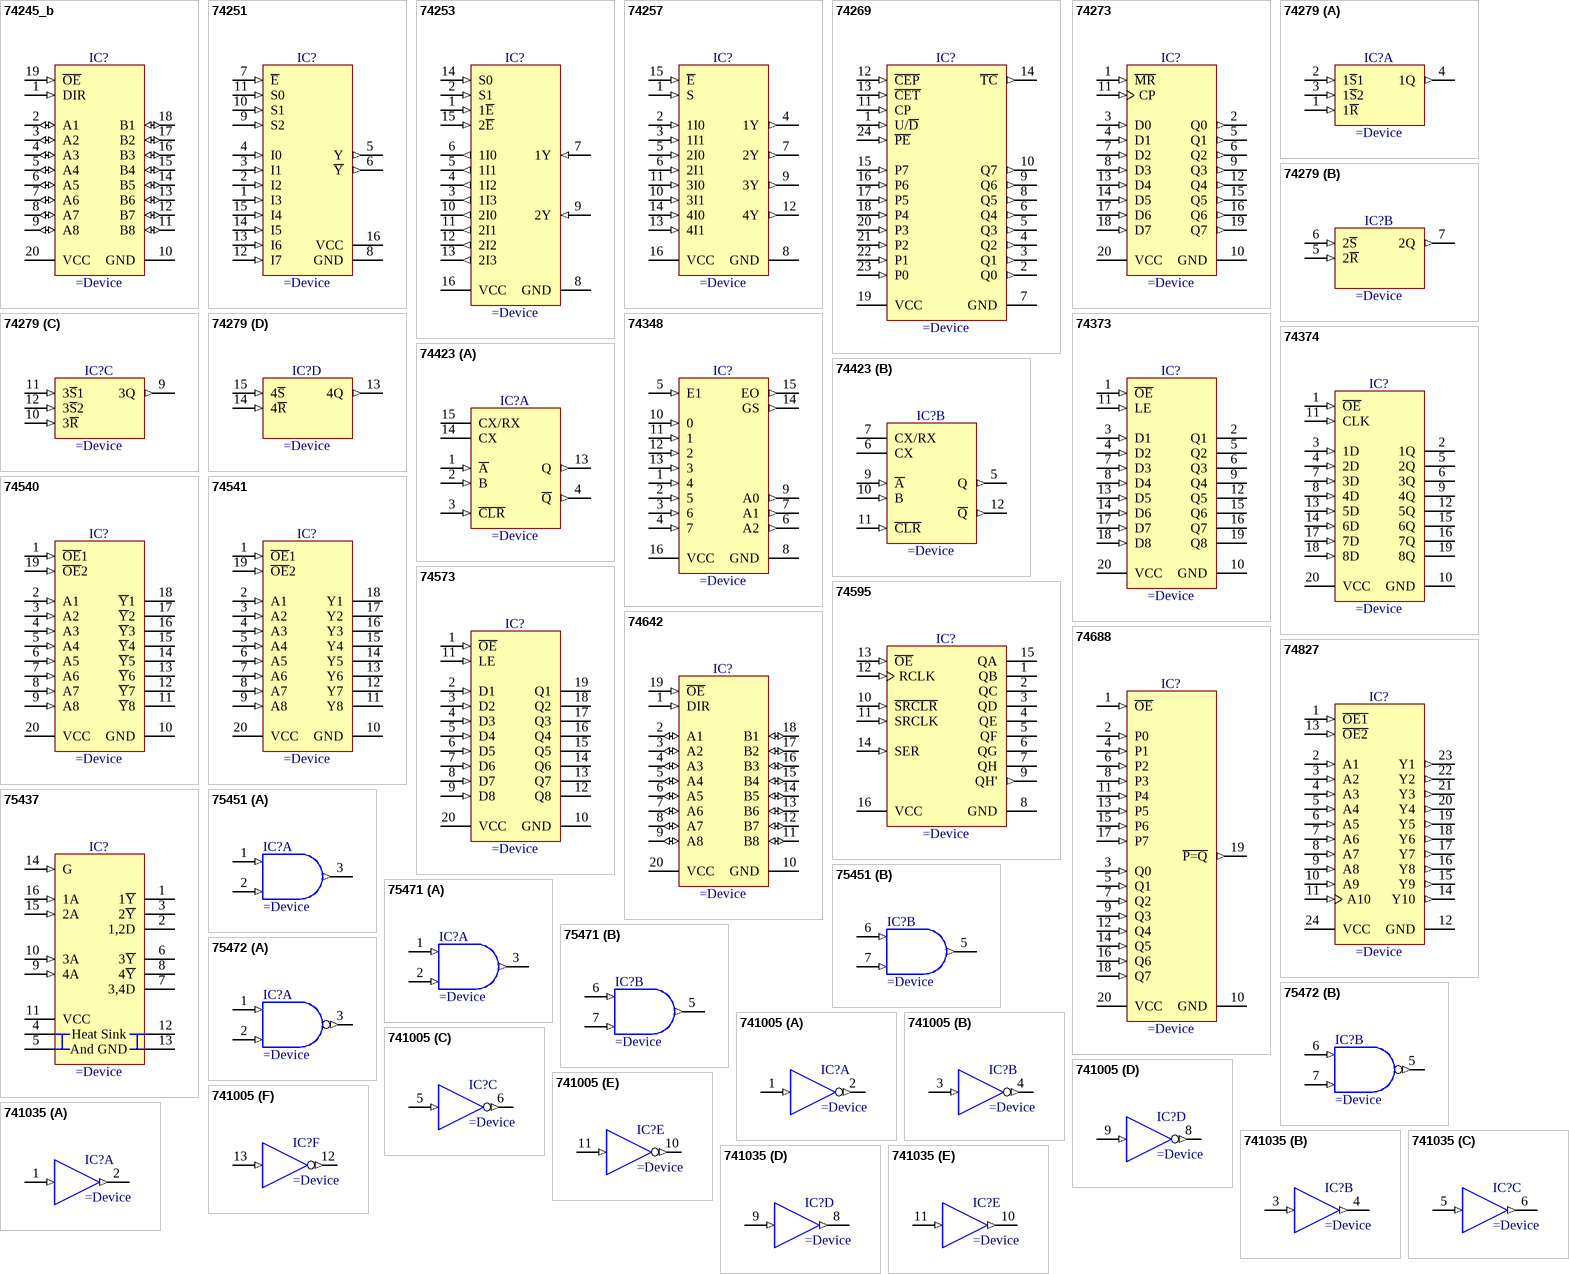
[diagram p8: symbols 74245_b to 741035]

## 74245_b
designator IC?
Octal Bi-Directional Transceiver with 3-State Inputs/Outputs
pins: 1 DIR (in), 2 A1 (io), 3 A2 (io), 4 A3 (io), 5 A4 (io), 6 A5 (io), 7 A6 (io), 8 A7 (io), 9 A8 (io), 10 GND (power), 11 B8 (io), 12 B7 (io), 13 B6 (io), 14 B5 (io), 15 B4 (io), 16 B3 (io), 17 B2 (io), 18 B1 (io), 19 ~{OE} (in), 20 VCC (power)

## 74251
designator IC?
8-Input Multiplexer, 3-state Output
pins: 1 I3 (in) "data output (active LOW)", 2 I2 (in) "data output (active LOW)", 3 I1 (in) "data output (active LOW)", 4 I0 (in) "data output (active LOW)", 5 Y (out) "data output (active LOW)", 6 ~{Y} (out) "data output (active LOW)", 7 ~{E} (in) "data output (active LOW)", 8 GND (power) "data output (active LOW)", 9 S2 (in) "data output (active LOW)", 10 S1 (in) "data output (active LOW)", 11 S0 (in) "data output (active LOW)", 12 I7 (in) "data output (active LOW)", 13 I6 (in) "data output (active LOW)", 14 I5 (in) "data output (active LOW)", 15 I4 (in) "data output (active LOW)", 16 VCC (power) "data output (active LOW)"

## 74253
designator IC?
Dual 4-Input Multiplexer, 3-state Output
pins: 1 1~{E} (in), 2 S1 (in), 3 1I3 (out), 4 1I2 (out), 5 1I1 (out), 6 1I0 (out), 7 1Y (in), 8 GND (power), 9 2Y (in), 10 2I0 (out), 11 2I1 (out), 12 2I2 (out), 13 2I3 (out), 14 S0 (in), 15 2~{E} (in), 16 VCC (power)

## 74257
designator IC?
Quad 2-Input Multiplexer, 3-state Output
pins: 1 S (in) "data output (active LOW)", 2 1I0 (in) "data output (active LOW)", 3 1I1 (in) "data output (active LOW)", 4 1Y (out) "data output (active LOW)", 5 2I0 (in) "data output (active LOW)", 6 2I1 (in) "data output (active LOW)", 7 2Y (out) "data output (active LOW)", 8 GND (power) "data output (active LOW)", 9 3Y (out) "data output (active LOW)", 10 3I1 (in) "data output (active LOW)", 11 3I0 (in) "data output (active LOW)", 12 4Y (out) "data output (active LOW)", 13 4I1 (in) "data output (active LOW)", 14 4I0 (in) "data output (active LOW)", 15 ~{E} (in) "data output (active LOW)", 16 VCC (power) "data output (active LOW)"

## 74269
designator IC?
8-Bit Bidirectional Binary Counter
pins: 1 U/~{D} (in), 2 Q0 (out), 3 Q1 (out), 4 Q2 (out), 5 Q3 (out), 6 Q4 (out), 7 GND (power), 8 Q5 (out), 9 Q6 (out), 10 Q7 (out), 11 CP (in), 12 ~{CEP} (in), 13 ~{CET} (in), 14 ~{TC} (out), 15 P7 (in), 16 P6 (in), 17 P5 (in), 18 P4 (in), 19 VCC (power), 20 P3 (in), 21 P2 (in), 22 P1 (in), 23 P0 (in), 24 ~{PE} (in)

## 74273
designator IC?
Octal D-Type Flip-Flop with Clear
pins: 1 ~{MR} (in), 2 Q0 (out), 3 D0 (in), 4 D1 (in), 5 Q1 (out), 6 Q2 (out), 7 D2 (in), 8 D3 (in), 9 Q3 (out), 10 GND (power), 11 CP (in), 12 Q4 (out), 13 D4 (in), 14 D5 (in), 15 Q5 (out), 16 Q6 (out), 17 D6 (in), 18 D7 (in), 19 Q7 (out), 20 VCC (power)